# Altium integrated library Atmel Microcontroller 32-Bit ARM.IntLib: 116 symbols (part 5 of 10)
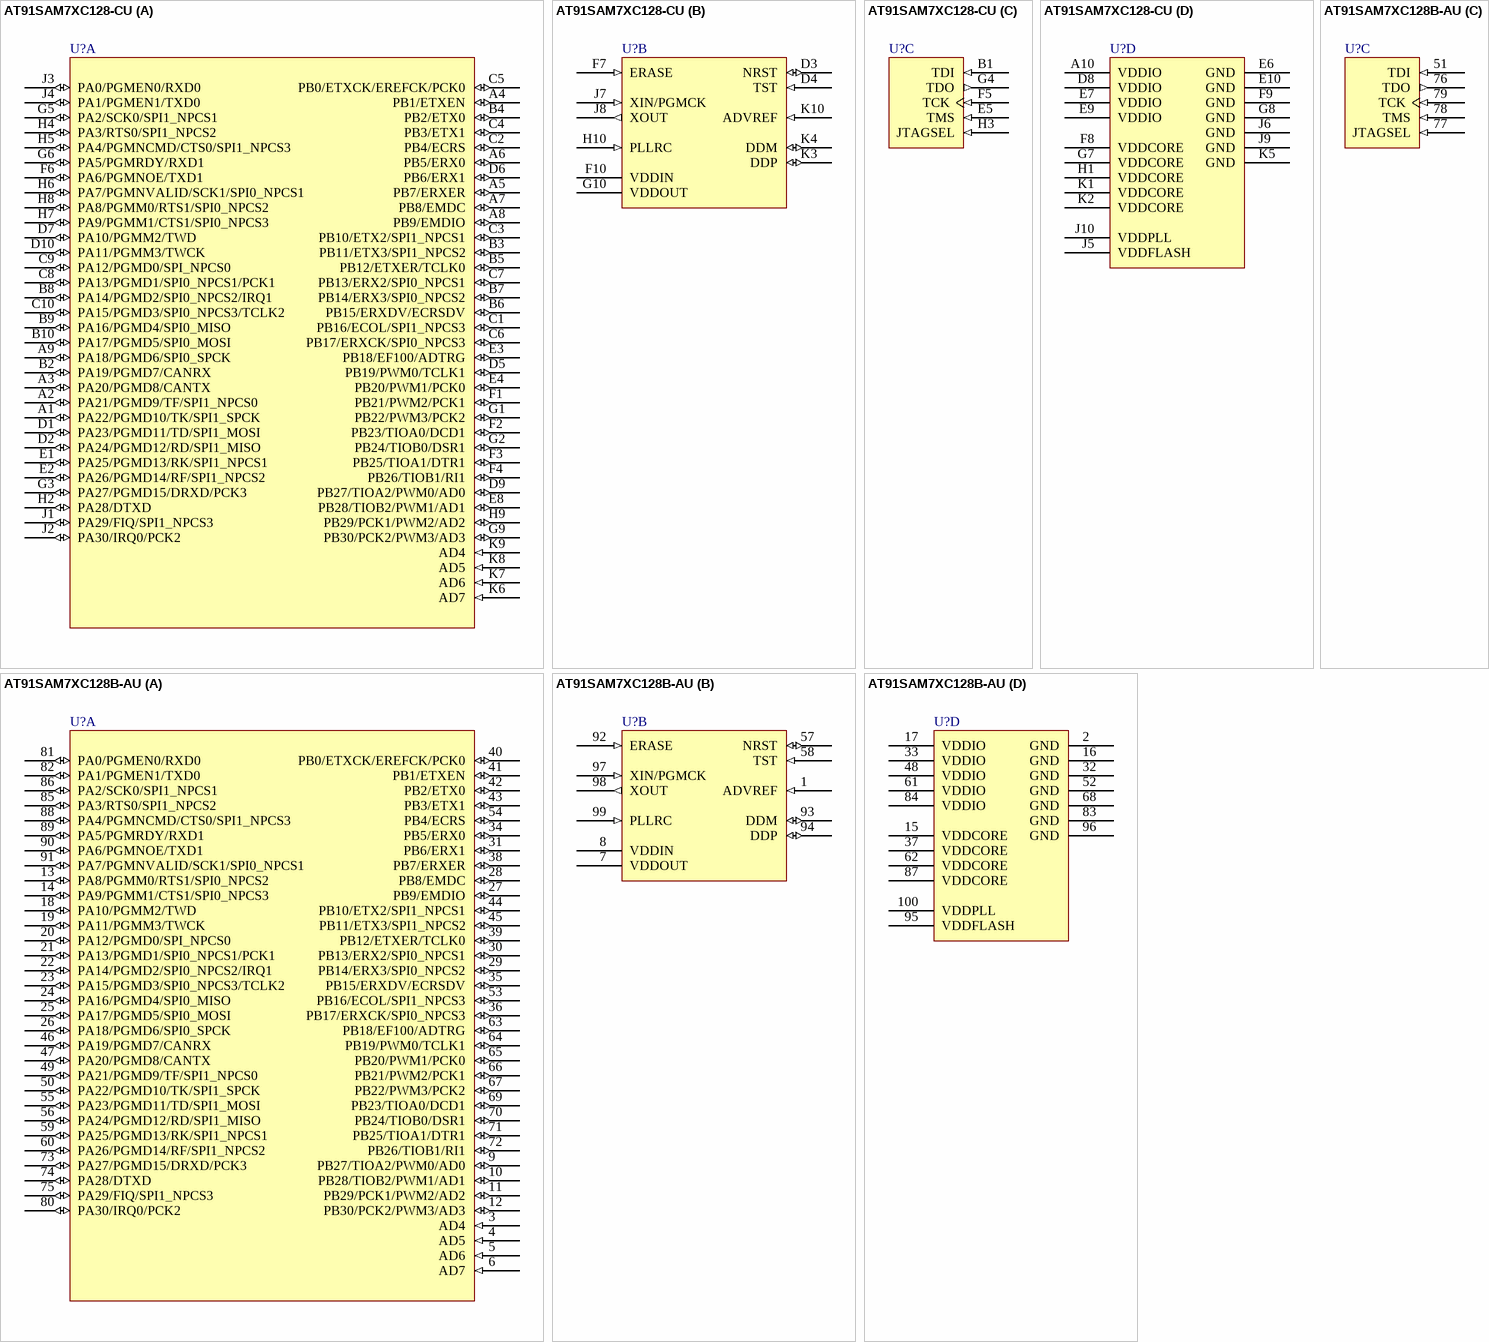
[diagram p56: symbols AT91SAM7XC128-CU to AT91SAM7XC128B-AU]

## AT91SAM7XC128-CU
designator U?
AT91 ARM Thumb-based 32-bit Microcontroller, 128KB Flash, 32KB SRAM, E-MAC, CAN, 100-Pin TFBGA, Industrial Grade (-40°C to 85°C), Pb-Free; Published: 20-Sep-2010; DatasheetVersion: revDS, Feb-2009; PackageVersion: 2004; PackageReference: TFBGA100; Publisher: Altium Limited; PackageDescription: 100-Ball Thin Fine Ball Grid Array, 9 x 9 x1.1 mm Body, 0.80 mm Pitch; Supplier 1: Digi-Key; Supplier Part Number 1: AT91SAM7XC128-CU-ND; Supplier 2: Mouser; Supplier Part Number 2: 556-A91SAM7XC128-CU; ComponentLink1Description: Manufacturer Link; ComponentLink1URL: http://www.atmel.com/products/AT91/default.asp?; ComponentLink2Description: AT91SAM7XC Series Summary; ComponentLink2URL: http://www.atmel.com/dyn/resources/prod_documents/6209s.pdf; ComponentLink3Description: ARM7TDMI Reference Manual; ComponentLink3URL: http://www.atmel.com/dyn/resources/prod_documents/DDI0029G_7TDMI_R3_trm.pdf; ComponentLink4Description: Atmel.com Home; ComponentLink4URL: http://www.atmel.com
footprint TFBGA100 (BGA, 100-Leads, Body 9x9mm, Pitch 0.8mm)
part A pins: A1 PA22/PGMD10/TK/SPI1_SPCK (io), A2 PA21/PGMD9/TF/SPI1_NPCS0 (io), A3 PA20/PGMD8/CANTX (io), A4 PB1/ETXEN (io), A5 PB7/ERXER (io), A6 PB5/ERX0 (io), A7 PB8/EMDC (io), A8 PB9/EMDIO (io), A9 PA18/PGMD6/SPI0_SPCK (io), B2 PA19/PGMD7/CANRX (io), B3 PB11/ETX3/SPI1_NPCS2 (io), B4 PB2/ETX0 (io), B5 PB12/ETXER/TCLK0 (io), B6 PB15/ERXDV/ECRSDV (io), B7 PB14/ERX3/SPI0_NPCS2 (io), B8 PA14/PGMD2/SPI0_NPCS2/IRQ1 (io), B9 PA16/PGMD4/SPI0_MISO (io), B10 PA17/PGMD5/SPI0_MOSI (io), C1 PB16/ECOL/SPI1_NPCS3 (io), C2 PB4/ECRS (io), C3 PB10/ETX2/SPI1_NPCS1 (io), C4 PB3/ETX1 (io), C5 PB0/ETXCK/EREFCK/PCK0 (io), C6 PB17/ERXCK/SPI0_NPCS3 (io), C7 PB13/ERX2/SPI0_NPCS1 (io), C8 PA13/PGMD1/SPI0_NPCS1/PCK1 (io), C9 PA12/PGMD0/SPI_NPCS0 (io), C10 PA15/PGMD3/SPI0_NPCS3/TCLK2 (io), D1 PA23/PGMD11/TD/SPI1_MOSI (io), D2 PA24/PGMD12/RD/SPI1_MISO (io), D5 PB19/PWM0/TCLK1 (io), D6 PB6/ERX1 (io), D7 PA10/PGMM2/TWD (io), D9 PB27/TIOA2/PWM0/AD0 (io), D10 PA11/PGMM3/TWCK (io), E1 PA25/PGMD13/RK/SPI1_NPCS1 (io), E2 PA26/PGMD14/RF/SPI1_NPCS2 (io), E3 PB18/EF100/ADTRG (io), E4 PB20/PWM1/PCK0 (io), E8 PB28/TIOB2/PWM1/AD1 (io), F1 PB21/PWM2/PCK1 (io), F2 PB23/TIOA0/DCD1 (io), F3 PB25/TIOA1/DTR1 (io), F4 PB26/TIOB1/RI1 (io), F6 PA6/PGMNOE/TXD1 (io), G1 PB22/PWM3/PCK2 (io), G2 PB24/TIOB0/DSR1 (io), G3 PA27/PGMD15/DRXD/PCK3 (io), G5 PA2/SCK0/SPI1_NPCS1 (io), G6 PA5/PGMRDY/RXD1 (io), G9 PB30/PCK2/PWM3/AD3 (io), H2 PA28/DTXD (io), H4 PA3/RTS0/SPI1_NPCS2 (io), H5 PA4/PGMNCMD/CTS0/SPI1_NPCS3 (io), H6 PA7/PGMNVALID/SCK1/SPI0_NPCS1 (io), H7 PA9/PGMM1/CTS1/SPI0_NPCS3 (io), H8 PA8/PGMM0/RTS1/SPI0_NPCS2 (io), H9 PB29/PCK1/PWM2/AD2 (io), J1 PA29/FIQ/SPI1_NPCS3 (io), J2 PA30/IRQ0/PCK2 (io), J3 PA0/PGMEN0/RXD0 (io), J4 PA1/PGMEN1/TXD0 (io), K6 AD7 (in), K7 AD6 (in), K8 AD5 (in), K9 AD4 (in)
part B pins: D3 NRST (io), D4 TST (in), F7 ERASE (in), F10 VDDIN (power), G10 VDDOUT (power), H10 PLLRC (in), J7 XIN/PGMCK (in), J8 XOUT (out), K3 DDP (io), K4 DDM (io), K10 ADVREF (in)
part C pins: B1 TDI (in), E5 TMS (in), F5 TCK (in), G4 TDO (out), H3 JTAGSEL (in)
part D pins: A10 VDDIO (power), D8 VDDIO (power), E6 GND (power), E7 VDDIO (power), E9 VDDIO (power), E10 GND (power), F8 VDDCORE (power), F9 GND (power), G7 VDDCORE (power), G8 GND (power), H1 VDDCORE (power), J5 VDDFLASH (power), J6 GND (power), J9 GND (power), J10 VDDPLL (power), K1 VDDCORE (power), K2 VDDCORE (power), K5 GND (power)

## AT91SAM7XC128B-AU
designator U?
AT91 ARM Thumb-based 32-bit Microcontroller, 128KB Flash, 32KB SRAM, E-MAC, CAN, 100-Pin LQFP, Industrial Grade (-40°C to 85°C), Pb-Free; Published: 16-Oct-2006; DatasheetVersion: revDS, Feb-2009; PackageVersion: Apr-2006; PackageReference: LQFP100; Publisher: Altium Limited; PackageDescription: 100-Pin Thin Quad Flat Pack 0.5 mm Pitch; Supplier 1: Digi-Key; Supplier Part Number 1: AT91SAM7XC128B-AU-ND; Supplier 2: Mouser; Supplier Part Number 2: 556-AT91SAM7XC128BAU; Code_JEDEC: MS-026-BED; ComponentLink1Description: Manufacturer Link; ComponentLink1URL: http://www.atmel.com/products/AT91/default.asp?; ComponentLink2Description: AT91SAM7XC Series Summary; ComponentLink2URL: http://www.atmel.com/dyn/resources/prod_documents/6209s.pdf; ComponentLink3Description: ARM7TDMI Reference Manual; ComponentLink3URL: http://www.atmel.com/dyn/resources/prod_documents/DDI0029G_7TDMI_R3_trm.pdf; ComponentLink4Description: Atmel.com Home; ComponentLink4URL: http://www.atmel.com
footprint LQFP100_N (Thin QFP, 100-Leads, Body 14x14mm, Pitch 0.5mm, IPC Medium Density)
footprint LQFP100_L (Thin QFP, 100-Leads, Body 14x14mm, Pitch 0.5mm, IPC High Density)
footprint LQFP100_M (Thin QFP, 100-Leads, Body 14x14mm, Pitch 0.5mm, IPC Low Density)
part A pins: 3 AD4 (in), 4 AD5 (in), 5 AD6 (in), 6 AD7 (in), 9 PB27/TIOA2/PWM0/AD0 (io), 10 PB28/TIOB2/PWM1/AD1 (io), 11 PB29/PCK1/PWM2/AD2 (io), 12 PB30/PCK2/PWM3/AD3 (io), 13 PA8/PGMM0/RTS1/SPI0_NPCS2 (io), 14 PA9/PGMM1/CTS1/SPI0_NPCS3 (io), 18 PA10/PGMM2/TWD (io), 19 PA11/PGMM3/TWCK (io), 20 PA12/PGMD0/SPI_NPCS0 (io), 21 PA13/PGMD1/SPI0_NPCS1/PCK1 (io), 22 PA14/PGMD2/SPI0_NPCS2/IRQ1 (io), 23 PA15/PGMD3/SPI0_NPCS3/TCLK2 (io), 24 PA16/PGMD4/SPI0_MISO (io), 25 PA17/PGMD5/SPI0_MOSI (io), 26 PA18/PGMD6/SPI0_SPCK (io), 27 PB9/EMDIO (io), 28 PB8/EMDC (io), 29 PB14/ERX3/SPI0_NPCS2 (io), 30 PB13/ERX2/SPI0_NPCS1 (io), 31 PB6/ERX1 (io), 34 PB5/ERX0 (io), 35 PB15/ERXDV/ECRSDV (io), 36 PB17/ERXCK/SPI0_NPCS3 (io), 38 PB7/ERXER (io), 39 PB12/ETXER/TCLK0 (io), 40 PB0/ETXCK/EREFCK/PCK0 (io), 41 PB1/ETXEN (io), 42 PB2/ETX0 (io), 43 PB3/ETX1 (io), 44 PB10/ETX2/SPI1_NPCS1 (io), 45 PB11/ETX3/SPI1_NPCS2 (io), 46 PA19/PGMD7/CANRX (io), 47 PA20/PGMD8/CANTX (io), 49 PA21/PGMD9/TF/SPI1_NPCS0 (io), 50 PA22/PGMD10/TK/SPI1_SPCK (io), 53 PB16/ECOL/SPI1_NPCS3 (io), 54 PB4/ECRS (io), 55 PA23/PGMD11/TD/SPI1_MOSI (io), 56 PA24/PGMD12/RD/SPI1_MISO (io), 59 PA25/PGMD13/RK/SPI1_NPCS1 (io), 60 PA26/PGMD14/RF/SPI1_NPCS2 (io), 63 PB18/EF100/ADTRG (io), 64 PB19/PWM0/TCLK1 (io), 65 PB20/PWM1/PCK0 (io), 66 PB21/PWM2/PCK1 (io), 67 PB22/PWM3/PCK2 (io), 69 PB23/TIOA0/DCD1 (io), 70 PB24/TIOB0/DSR1 (io), 71 PB25/TIOA1/DTR1 (io), 72 PB26/TIOB1/RI1 (io), 73 PA27/PGMD15/DRXD/PCK3 (io), 74 PA28/DTXD (io), 75 PA29/FIQ/SPI1_NPCS3 (io), 80 PA30/IRQ0/PCK2 (io), 81 PA0/PGMEN0/RXD0 (io), 82 PA1/PGMEN1/TXD0 (io), 85 PA3/RTS0/SPI1_NPCS2 (io), 86 PA2/SCK0/SPI1_NPCS1 (io), 88 PA4/PGMNCMD/CTS0/SPI1_NPCS3 (io), 89 PA5/PGMRDY/RXD1 (io), 90 PA6/PGMNOE/TXD1 (io), 91 PA7/PGMNVALID/SCK1/SPI0_NPCS1 (io)
part B pins: 1 ADVREF (in), 7 VDDOUT (power), 8 VDDIN (power), 57 NRST (io), 58 TST (in), 92 ERASE (in), 93 DDM (io), 94 DDP (io), 97 XIN/PGMCK (in), 98 XOUT (out), 99 PLLRC (in)
part C pins: 51 TDI (in), 76 TDO (out), 77 JTAGSEL (in), 78 TMS (in), 79 TCK (in)
part D pins: 2 GND (power), 15 VDDCORE (power), 16 GND (power), 17 VDDIO (power), 32 GND (power), 33 VDDIO (power), 37 VDDCORE (power), 48 VDDIO (power), 52 GND (power), 61 VDDIO (power), 62 VDDCORE (power), 68 GND (power), 83 GND (power), 84 VDDIO (power), 87 VDDCORE (power), 95 VDDFLASH (power), 96 GND (power), 100 VDDPLL (power)

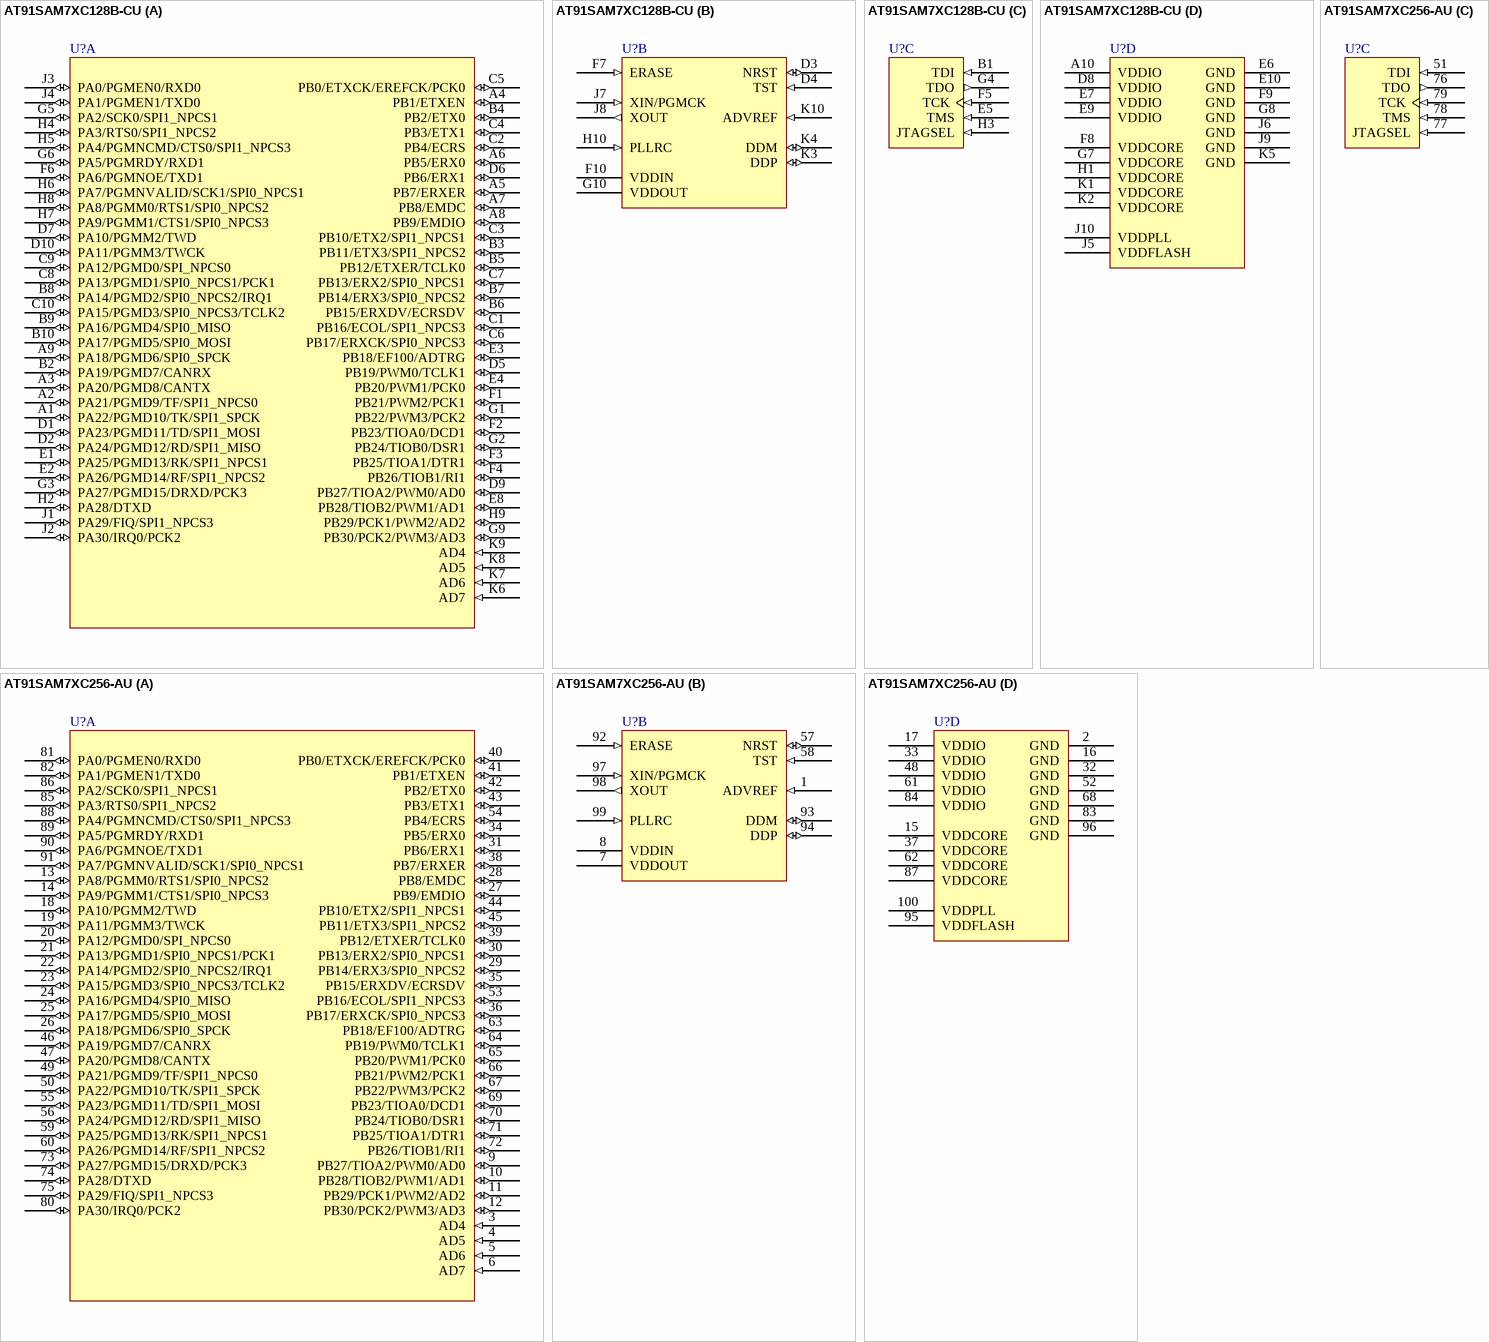
[diagram p24: symbols AT91SAM7XC128B-CU to AT91SAM7XC256-AU]

## AT91SAM7XC128B-CU
designator U?
AT91 ARM Thumb-based 32-bit Microcontroller, 128KB Flash, 32KB SRAM, E-MAC, CAN, 100-Pin TFBGA, Industrial Grade (-40°C to 85°C), Pb-Free; Published: 20-Sep-2010; DatasheetVersion: revDS, Feb-2009; PackageVersion: 2004; PackageReference: TFBGA100; Publisher: Altium Limited; PackageDescription: 100-Ball Thin Fine Ball Grid Array, 9 x 9 x1.1 mm Body, 0.80 mm Pitch; Supplier 1: Digi-Key; Supplier Part Number 1: AT91SAM7XC128B-CU-ND; Supplier 2: Mouser; Supplier Part Number 2: 556-AT91SAM7XC128BCU; ComponentLink1Description: Manufacturer Link; ComponentLink1URL: http://www.atmel.com/products/AT91/default.asp?; ComponentLink2Description: AT91SAM7XC Series Summary; ComponentLink2URL: http://www.atmel.com/dyn/resources/prod_documents/6209s.pdf; ComponentLink3Description: ARM7TDMI Reference Manual; ComponentLink3URL: http://www.atmel.com/dyn/resources/prod_documents/DDI0029G_7TDMI_R3_trm.pdf; ComponentLink4Description: Atmel.com Home; ComponentLink4URL: http://www.atmel.com
footprint TFBGA100 (BGA, 100-Leads, Body 9x9mm, Pitch 0.8mm)
part A pins: A1 PA22/PGMD10/TK/SPI1_SPCK (io), A2 PA21/PGMD9/TF/SPI1_NPCS0 (io), A3 PA20/PGMD8/CANTX (io), A4 PB1/ETXEN (io), A5 PB7/ERXER (io), A6 PB5/ERX0 (io), A7 PB8/EMDC (io), A8 PB9/EMDIO (io), A9 PA18/PGMD6/SPI0_SPCK (io), B2 PA19/PGMD7/CANRX (io), B3 PB11/ETX3/SPI1_NPCS2 (io), B4 PB2/ETX0 (io), B5 PB12/ETXER/TCLK0 (io), B6 PB15/ERXDV/ECRSDV (io), B7 PB14/ERX3/SPI0_NPCS2 (io), B8 PA14/PGMD2/SPI0_NPCS2/IRQ1 (io), B9 PA16/PGMD4/SPI0_MISO (io), B10 PA17/PGMD5/SPI0_MOSI (io), C1 PB16/ECOL/SPI1_NPCS3 (io), C2 PB4/ECRS (io), C3 PB10/ETX2/SPI1_NPCS1 (io), C4 PB3/ETX1 (io), C5 PB0/ETXCK/EREFCK/PCK0 (io), C6 PB17/ERXCK/SPI0_NPCS3 (io), C7 PB13/ERX2/SPI0_NPCS1 (io), C8 PA13/PGMD1/SPI0_NPCS1/PCK1 (io), C9 PA12/PGMD0/SPI_NPCS0 (io), C10 PA15/PGMD3/SPI0_NPCS3/TCLK2 (io), D1 PA23/PGMD11/TD/SPI1_MOSI (io), D2 PA24/PGMD12/RD/SPI1_MISO (io), D5 PB19/PWM0/TCLK1 (io), D6 PB6/ERX1 (io), D7 PA10/PGMM2/TWD (io), D9 PB27/TIOA2/PWM0/AD0 (io), D10 PA11/PGMM3/TWCK (io), E1 PA25/PGMD13/RK/SPI1_NPCS1 (io), E2 PA26/PGMD14/RF/SPI1_NPCS2 (io), E3 PB18/EF100/ADTRG (io), E4 PB20/PWM1/PCK0 (io), E8 PB28/TIOB2/PWM1/AD1 (io), F1 PB21/PWM2/PCK1 (io), F2 PB23/TIOA0/DCD1 (io), F3 PB25/TIOA1/DTR1 (io), F4 PB26/TIOB1/RI1 (io), F6 PA6/PGMNOE/TXD1 (io), G1 PB22/PWM3/PCK2 (io), G2 PB24/TIOB0/DSR1 (io), G3 PA27/PGMD15/DRXD/PCK3 (io), G5 PA2/SCK0/SPI1_NPCS1 (io), G6 PA5/PGMRDY/RXD1 (io), G9 PB30/PCK2/PWM3/AD3 (io), H2 PA28/DTXD (io), H4 PA3/RTS0/SPI1_NPCS2 (io), H5 PA4/PGMNCMD/CTS0/SPI1_NPCS3 (io), H6 PA7/PGMNVALID/SCK1/SPI0_NPCS1 (io), H7 PA9/PGMM1/CTS1/SPI0_NPCS3 (io), H8 PA8/PGMM0/RTS1/SPI0_NPCS2 (io), H9 PB29/PCK1/PWM2/AD2 (io), J1 PA29/FIQ/SPI1_NPCS3 (io), J2 PA30/IRQ0/PCK2 (io), J3 PA0/PGMEN0/RXD0 (io), J4 PA1/PGMEN1/TXD0 (io), K6 AD7 (in), K7 AD6 (in), K8 AD5 (in), K9 AD4 (in)
part B pins: D3 NRST (io), D4 TST (in), F7 ERASE (in), F10 VDDIN (power), G10 VDDOUT (power), H10 PLLRC (in), J7 XIN/PGMCK (in), J8 XOUT (out), K3 DDP (io), K4 DDM (io), K10 ADVREF (in)
part C pins: B1 TDI (in), E5 TMS (in), F5 TCK (in), G4 TDO (out), H3 JTAGSEL (in)
part D pins: A10 VDDIO (power), D8 VDDIO (power), E6 GND (power), E7 VDDIO (power), E9 VDDIO (power), E10 GND (power), F8 VDDCORE (power), F9 GND (power), G7 VDDCORE (power), G8 GND (power), H1 VDDCORE (power), J5 VDDFLASH (power), J6 GND (power), J9 GND (power), J10 VDDPLL (power), K1 VDDCORE (power), K2 VDDCORE (power), K5 GND (power)

## AT91SAM7XC256-AU
designator U?
AT91 ARM Thumb-based 32-bit Microcontroller, 256KB Flash, 64KB SRAM, E-MAC, CAN, 100-Pin LQFP, Industrial Grade (-40°C to 85°C), Pb-Free; Published: 16-Oct-2006; DatasheetVersion: revDS, Feb-2009; PackageVersion: Apr-2006; PackageReference: LQFP100; Publisher: Altium Limited; PackageDescription: 100-Pin Thin Quad Flat Pack 0.5 mm Pitch; Supplier 1: Digi-Key; Supplier Part Number 1: AT91SAM7XC256-AU-ND; Supplier 2: Mouser; Supplier Part Number 2: 556-A91SAM7XC256AU; Code_JEDEC: MS-026-BED; ComponentLink1Description: Manufacturer Link; ComponentLink1URL: http://www.atmel.com/products/AT91/default.asp?; ComponentLink2Description: AT91SAM7XC Series Summary; ComponentLink2URL: http://www.atmel.com/dyn/resources/prod_documents/6209s.pdf; ComponentLink3Description: ARM7TDMI Reference Manual; ComponentLink3URL: http://www.atmel.com/dyn/resources/prod_documents/DDI0029G_7TDMI_R3_trm.pdf; ComponentLink4Description: Atmel.com Home; ComponentLink4URL: http://www.atmel.com
footprint LQFP100_N (Thin QFP, 100-Leads, Body 14x14mm, Pitch 0.5mm, IPC Medium Density)
footprint LQFP100_L (Thin QFP, 100-Leads, Body 14x14mm, Pitch 0.5mm, IPC High Density)
footprint LQFP100_M (Thin QFP, 100-Leads, Body 14x14mm, Pitch 0.5mm, IPC Low Density)
part A pins: 3 AD4 (in), 4 AD5 (in), 5 AD6 (in), 6 AD7 (in), 9 PB27/TIOA2/PWM0/AD0 (io), 10 PB28/TIOB2/PWM1/AD1 (io), 11 PB29/PCK1/PWM2/AD2 (io), 12 PB30/PCK2/PWM3/AD3 (io), 13 PA8/PGMM0/RTS1/SPI0_NPCS2 (io), 14 PA9/PGMM1/CTS1/SPI0_NPCS3 (io), 18 PA10/PGMM2/TWD (io), 19 PA11/PGMM3/TWCK (io), 20 PA12/PGMD0/SPI_NPCS0 (io), 21 PA13/PGMD1/SPI0_NPCS1/PCK1 (io), 22 PA14/PGMD2/SPI0_NPCS2/IRQ1 (io), 23 PA15/PGMD3/SPI0_NPCS3/TCLK2 (io), 24 PA16/PGMD4/SPI0_MISO (io), 25 PA17/PGMD5/SPI0_MOSI (io), 26 PA18/PGMD6/SPI0_SPCK (io), 27 PB9/EMDIO (io), 28 PB8/EMDC (io), 29 PB14/ERX3/SPI0_NPCS2 (io), 30 PB13/ERX2/SPI0_NPCS1 (io), 31 PB6/ERX1 (io), 34 PB5/ERX0 (io), 35 PB15/ERXDV/ECRSDV (io), 36 PB17/ERXCK/SPI0_NPCS3 (io), 38 PB7/ERXER (io), 39 PB12/ETXER/TCLK0 (io), 40 PB0/ETXCK/EREFCK/PCK0 (io), 41 PB1/ETXEN (io), 42 PB2/ETX0 (io), 43 PB3/ETX1 (io), 44 PB10/ETX2/SPI1_NPCS1 (io), 45 PB11/ETX3/SPI1_NPCS2 (io), 46 PA19/PGMD7/CANRX (io), 47 PA20/PGMD8/CANTX (io), 49 PA21/PGMD9/TF/SPI1_NPCS0 (io), 50 PA22/PGMD10/TK/SPI1_SPCK (io), 53 PB16/ECOL/SPI1_NPCS3 (io), 54 PB4/ECRS (io), 55 PA23/PGMD11/TD/SPI1_MOSI (io), 56 PA24/PGMD12/RD/SPI1_MISO (io), 59 PA25/PGMD13/RK/SPI1_NPCS1 (io), 60 PA26/PGMD14/RF/SPI1_NPCS2 (io), 63 PB18/EF100/ADTRG (io), 64 PB19/PWM0/TCLK1 (io), 65 PB20/PWM1/PCK0 (io), 66 PB21/PWM2/PCK1 (io), 67 PB22/PWM3/PCK2 (io), 69 PB23/TIOA0/DCD1 (io), 70 PB24/TIOB0/DSR1 (io), 71 PB25/TIOA1/DTR1 (io), 72 PB26/TIOB1/RI1 (io), 73 PA27/PGMD15/DRXD/PCK3 (io), 74 PA28/DTXD (io), 75 PA29/FIQ/SPI1_NPCS3 (io), 80 PA30/IRQ0/PCK2 (io), 81 PA0/PGMEN0/RXD0 (io), 82 PA1/PGMEN1/TXD0 (io), 85 PA3/RTS0/SPI1_NPCS2 (io), 86 PA2/SCK0/SPI1_NPCS1 (io), 88 PA4/PGMNCMD/CTS0/SPI1_NPCS3 (io), 89 PA5/PGMRDY/RXD1 (io), 90 PA6/PGMNOE/TXD1 (io), 91 PA7/PGMNVALID/SCK1/SPI0_NPCS1 (io)
part B pins: 1 ADVREF (in), 7 VDDOUT (power), 8 VDDIN (power), 57 NRST (io), 58 TST (in), 92 ERASE (in), 93 DDM (io), 94 DDP (io), 97 XIN/PGMCK (in), 98 XOUT (out), 99 PLLRC (in)
part C pins: 51 TDI (in), 76 TDO (out), 77 JTAGSEL (in), 78 TMS (in), 79 TCK (in)
part D pins: 2 GND (power), 15 VDDCORE (power), 16 GND (power), 17 VDDIO (power), 32 GND (power), 33 VDDIO (power), 37 VDDCORE (power), 48 VDDIO (power), 52 GND (power), 61 VDDIO (power), 62 VDDCORE (power), 68 GND (power), 83 GND (power), 84 VDDIO (power), 87 VDDCORE (power), 95 VDDFLASH (power), 96 GND (power), 100 VDDPLL (power)

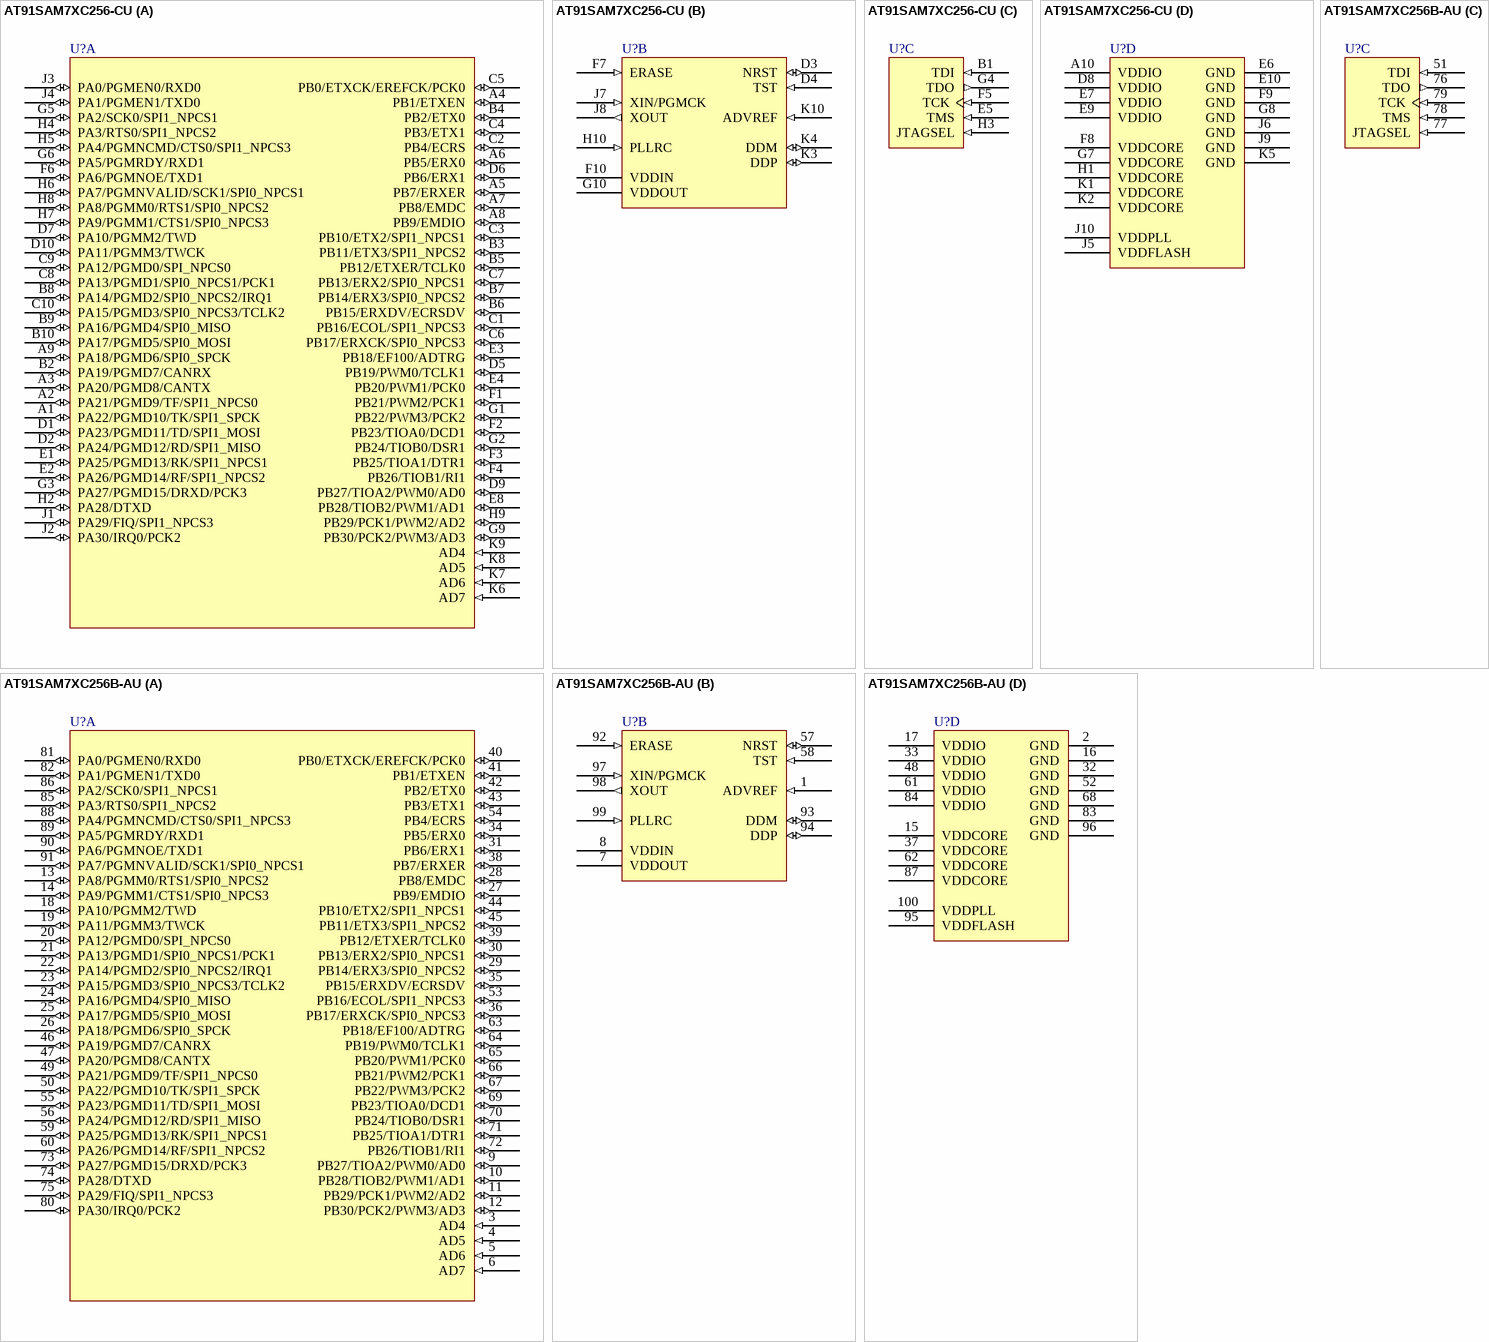
[diagram p25: symbols AT91SAM7XC256-CU to AT91SAM7XC256B-AU]

## AT91SAM7XC256-CU
designator U?
AT91 ARM Thumb-based 32-bit Microcontroller, 256KB Flash, 64KB SRAM, E-MAC, CAN, 100-Pin TFBGA, Industrial Grade (-40°C to 85°C), Pb-Free; Published: 20-Sep-2010; DatasheetVersion: revDS, Feb-2009; PackageVersion: 2004; PackageReference: TFBGA100; Publisher: Altium Limited; PackageDescription: 100-Ball Thin Fine Ball Grid Array, 9 x 9 x1.1 mm Body, 0.80 mm Pitch; Supplier 1: Digi-Key; Supplier Part Number 1: AT91SAM7XC256-CU-ND; Supplier 2: Mouser; Supplier Part Number 2: 556-A91SAM7XC256CU; ComponentLink1Description: Manufacturer Link; ComponentLink1URL: http://www.atmel.com/products/AT91/default.asp?; ComponentLink2Description: AT91SAM7XC Series Summary; ComponentLink2URL: http://www.atmel.com/dyn/resources/prod_documents/6209s.pdf; ComponentLink3Description: ARM7TDMI Reference Manual; ComponentLink3URL: http://www.atmel.com/dyn/resources/prod_documents/DDI0029G_7TDMI_R3_trm.pdf; ComponentLink4Description: Atmel.com Home; ComponentLink4URL: http://www.atmel.com
footprint TFBGA100 (BGA, 100-Leads, Body 9x9mm, Pitch 0.8mm)
part A pins: A1 PA22/PGMD10/TK/SPI1_SPCK (io), A2 PA21/PGMD9/TF/SPI1_NPCS0 (io), A3 PA20/PGMD8/CANTX (io), A4 PB1/ETXEN (io), A5 PB7/ERXER (io), A6 PB5/ERX0 (io), A7 PB8/EMDC (io), A8 PB9/EMDIO (io), A9 PA18/PGMD6/SPI0_SPCK (io), B2 PA19/PGMD7/CANRX (io), B3 PB11/ETX3/SPI1_NPCS2 (io), B4 PB2/ETX0 (io), B5 PB12/ETXER/TCLK0 (io), B6 PB15/ERXDV/ECRSDV (io), B7 PB14/ERX3/SPI0_NPCS2 (io), B8 PA14/PGMD2/SPI0_NPCS2/IRQ1 (io), B9 PA16/PGMD4/SPI0_MISO (io), B10 PA17/PGMD5/SPI0_MOSI (io), C1 PB16/ECOL/SPI1_NPCS3 (io), C2 PB4/ECRS (io), C3 PB10/ETX2/SPI1_NPCS1 (io), C4 PB3/ETX1 (io), C5 PB0/ETXCK/EREFCK/PCK0 (io), C6 PB17/ERXCK/SPI0_NPCS3 (io), C7 PB13/ERX2/SPI0_NPCS1 (io), C8 PA13/PGMD1/SPI0_NPCS1/PCK1 (io), C9 PA12/PGMD0/SPI_NPCS0 (io), C10 PA15/PGMD3/SPI0_NPCS3/TCLK2 (io), D1 PA23/PGMD11/TD/SPI1_MOSI (io), D2 PA24/PGMD12/RD/SPI1_MISO (io), D5 PB19/PWM0/TCLK1 (io), D6 PB6/ERX1 (io), D7 PA10/PGMM2/TWD (io), D9 PB27/TIOA2/PWM0/AD0 (io), D10 PA11/PGMM3/TWCK (io), E1 PA25/PGMD13/RK/SPI1_NPCS1 (io), E2 PA26/PGMD14/RF/SPI1_NPCS2 (io), E3 PB18/EF100/ADTRG (io), E4 PB20/PWM1/PCK0 (io), E8 PB28/TIOB2/PWM1/AD1 (io), F1 PB21/PWM2/PCK1 (io), F2 PB23/TIOA0/DCD1 (io), F3 PB25/TIOA1/DTR1 (io), F4 PB26/TIOB1/RI1 (io), F6 PA6/PGMNOE/TXD1 (io), G1 PB22/PWM3/PCK2 (io), G2 PB24/TIOB0/DSR1 (io), G3 PA27/PGMD15/DRXD/PCK3 (io), G5 PA2/SCK0/SPI1_NPCS1 (io), G6 PA5/PGMRDY/RXD1 (io), G9 PB30/PCK2/PWM3/AD3 (io), H2 PA28/DTXD (io), H4 PA3/RTS0/SPI1_NPCS2 (io), H5 PA4/PGMNCMD/CTS0/SPI1_NPCS3 (io), H6 PA7/PGMNVALID/SCK1/SPI0_NPCS1 (io), H7 PA9/PGMM1/CTS1/SPI0_NPCS3 (io), H8 PA8/PGMM0/RTS1/SPI0_NPCS2 (io), H9 PB29/PCK1/PWM2/AD2 (io), J1 PA29/FIQ/SPI1_NPCS3 (io), J2 PA30/IRQ0/PCK2 (io), J3 PA0/PGMEN0/RXD0 (io), J4 PA1/PGMEN1/TXD0 (io), K6 AD7 (in), K7 AD6 (in), K8 AD5 (in), K9 AD4 (in)
part B pins: D3 NRST (io), D4 TST (in), F7 ERASE (in), F10 VDDIN (power), G10 VDDOUT (power), H10 PLLRC (in), J7 XIN/PGMCK (in), J8 XOUT (out), K3 DDP (io), K4 DDM (io), K10 ADVREF (in)
part C pins: B1 TDI (in), E5 TMS (in), F5 TCK (in), G4 TDO (out), H3 JTAGSEL (in)
part D pins: A10 VDDIO (power), D8 VDDIO (power), E6 GND (power), E7 VDDIO (power), E9 VDDIO (power), E10 GND (power), F8 VDDCORE (power), F9 GND (power), G7 VDDCORE (power), G8 GND (power), H1 VDDCORE (power), J5 VDDFLASH (power), J6 GND (power), J9 GND (power), J10 VDDPLL (power), K1 VDDCORE (power), K2 VDDCORE (power), K5 GND (power)

## AT91SAM7XC256B-AU
designator U?
AT91 ARM Thumb-based 32-bit Microcontroller, 256KB Flash, 64KB SRAM, E-MAC, CAN, 100-Pin LQFP, Industrial Grade (-40°C to 85°C), Pb-Free; Published: 16-Oct-2006; DatasheetVersion: revDS, Feb-2009; PackageVersion: Apr-2006; PackageReference: LQFP100; Publisher: Altium Limited; PackageDescription: 100-Pin Thin Quad Flat Pack 0.5 mm Pitch; Supplier 1: Digi-Key; Supplier Part Number 1: AT91SAM7XC256B-AU-ND; Supplier 2: Mouser; Supplier Part Number 2: 556-AT91SAM7XC256BAU; Code_JEDEC: MS-026-BED; ComponentLink1Description: Manufacturer Link; ComponentLink1URL: http://www.atmel.com/products/AT91/default.asp?; ComponentLink2Description: AT91SAM7XC Series Summary; ComponentLink2URL: http://www.atmel.com/dyn/resources/prod_documents/6209s.pdf; ComponentLink3Description: ARM7TDMI Reference Manual; ComponentLink3URL: http://www.atmel.com/dyn/resources/prod_documents/DDI0029G_7TDMI_R3_trm.pdf; ComponentLink4Description: Atmel.com Home; ComponentLink4URL: http://www.atmel.com
footprint LQFP100_N (Thin QFP, 100-Leads, Body 14x14mm, Pitch 0.5mm, IPC Medium Density)
footprint LQFP100_L (Thin QFP, 100-Leads, Body 14x14mm, Pitch 0.5mm, IPC High Density)
footprint LQFP100_M (Thin QFP, 100-Leads, Body 14x14mm, Pitch 0.5mm, IPC Low Density)
part A pins: 3 AD4 (in), 4 AD5 (in), 5 AD6 (in), 6 AD7 (in), 9 PB27/TIOA2/PWM0/AD0 (io), 10 PB28/TIOB2/PWM1/AD1 (io), 11 PB29/PCK1/PWM2/AD2 (io), 12 PB30/PCK2/PWM3/AD3 (io), 13 PA8/PGMM0/RTS1/SPI0_NPCS2 (io), 14 PA9/PGMM1/CTS1/SPI0_NPCS3 (io), 18 PA10/PGMM2/TWD (io), 19 PA11/PGMM3/TWCK (io), 20 PA12/PGMD0/SPI_NPCS0 (io), 21 PA13/PGMD1/SPI0_NPCS1/PCK1 (io), 22 PA14/PGMD2/SPI0_NPCS2/IRQ1 (io), 23 PA15/PGMD3/SPI0_NPCS3/TCLK2 (io), 24 PA16/PGMD4/SPI0_MISO (io), 25 PA17/PGMD5/SPI0_MOSI (io), 26 PA18/PGMD6/SPI0_SPCK (io), 27 PB9/EMDIO (io), 28 PB8/EMDC (io), 29 PB14/ERX3/SPI0_NPCS2 (io), 30 PB13/ERX2/SPI0_NPCS1 (io), 31 PB6/ERX1 (io), 34 PB5/ERX0 (io), 35 PB15/ERXDV/ECRSDV (io), 36 PB17/ERXCK/SPI0_NPCS3 (io), 38 PB7/ERXER (io), 39 PB12/ETXER/TCLK0 (io), 40 PB0/ETXCK/EREFCK/PCK0 (io), 41 PB1/ETXEN (io), 42 PB2/ETX0 (io), 43 PB3/ETX1 (io), 44 PB10/ETX2/SPI1_NPCS1 (io), 45 PB11/ETX3/SPI1_NPCS2 (io), 46 PA19/PGMD7/CANRX (io), 47 PA20/PGMD8/CANTX (io), 49 PA21/PGMD9/TF/SPI1_NPCS0 (io), 50 PA22/PGMD10/TK/SPI1_SPCK (io), 53 PB16/ECOL/SPI1_NPCS3 (io), 54 PB4/ECRS (io), 55 PA23/PGMD11/TD/SPI1_MOSI (io), 56 PA24/PGMD12/RD/SPI1_MISO (io), 59 PA25/PGMD13/RK/SPI1_NPCS1 (io), 60 PA26/PGMD14/RF/SPI1_NPCS2 (io), 63 PB18/EF100/ADTRG (io), 64 PB19/PWM0/TCLK1 (io), 65 PB20/PWM1/PCK0 (io), 66 PB21/PWM2/PCK1 (io), 67 PB22/PWM3/PCK2 (io), 69 PB23/TIOA0/DCD1 (io), 70 PB24/TIOB0/DSR1 (io), 71 PB25/TIOA1/DTR1 (io), 72 PB26/TIOB1/RI1 (io), 73 PA27/PGMD15/DRXD/PCK3 (io), 74 PA28/DTXD (io), 75 PA29/FIQ/SPI1_NPCS3 (io), 80 PA30/IRQ0/PCK2 (io), 81 PA0/PGMEN0/RXD0 (io), 82 PA1/PGMEN1/TXD0 (io), 85 PA3/RTS0/SPI1_NPCS2 (io), 86 PA2/SCK0/SPI1_NPCS1 (io), 88 PA4/PGMNCMD/CTS0/SPI1_NPCS3 (io), 89 PA5/PGMRDY/RXD1 (io), 90 PA6/PGMNOE/TXD1 (io), 91 PA7/PGMNVALID/SCK1/SPI0_NPCS1 (io)
part B pins: 1 ADVREF (in), 7 VDDOUT (power), 8 VDDIN (power), 57 NRST (io), 58 TST (in), 92 ERASE (in), 93 DDM (io), 94 DDP (io), 97 XIN/PGMCK (in), 98 XOUT (out), 99 PLLRC (in)
part C pins: 51 TDI (in), 76 TDO (out), 77 JTAGSEL (in), 78 TMS (in), 79 TCK (in)
part D pins: 2 GND (power), 15 VDDCORE (power), 16 GND (power), 17 VDDIO (power), 32 GND (power), 33 VDDIO (power), 37 VDDCORE (power), 48 VDDIO (power), 52 GND (power), 61 VDDIO (power), 62 VDDCORE (power), 68 GND (power), 83 GND (power), 84 VDDIO (power), 87 VDDCORE (power), 95 VDDFLASH (power), 96 GND (power), 100 VDDPLL (power)

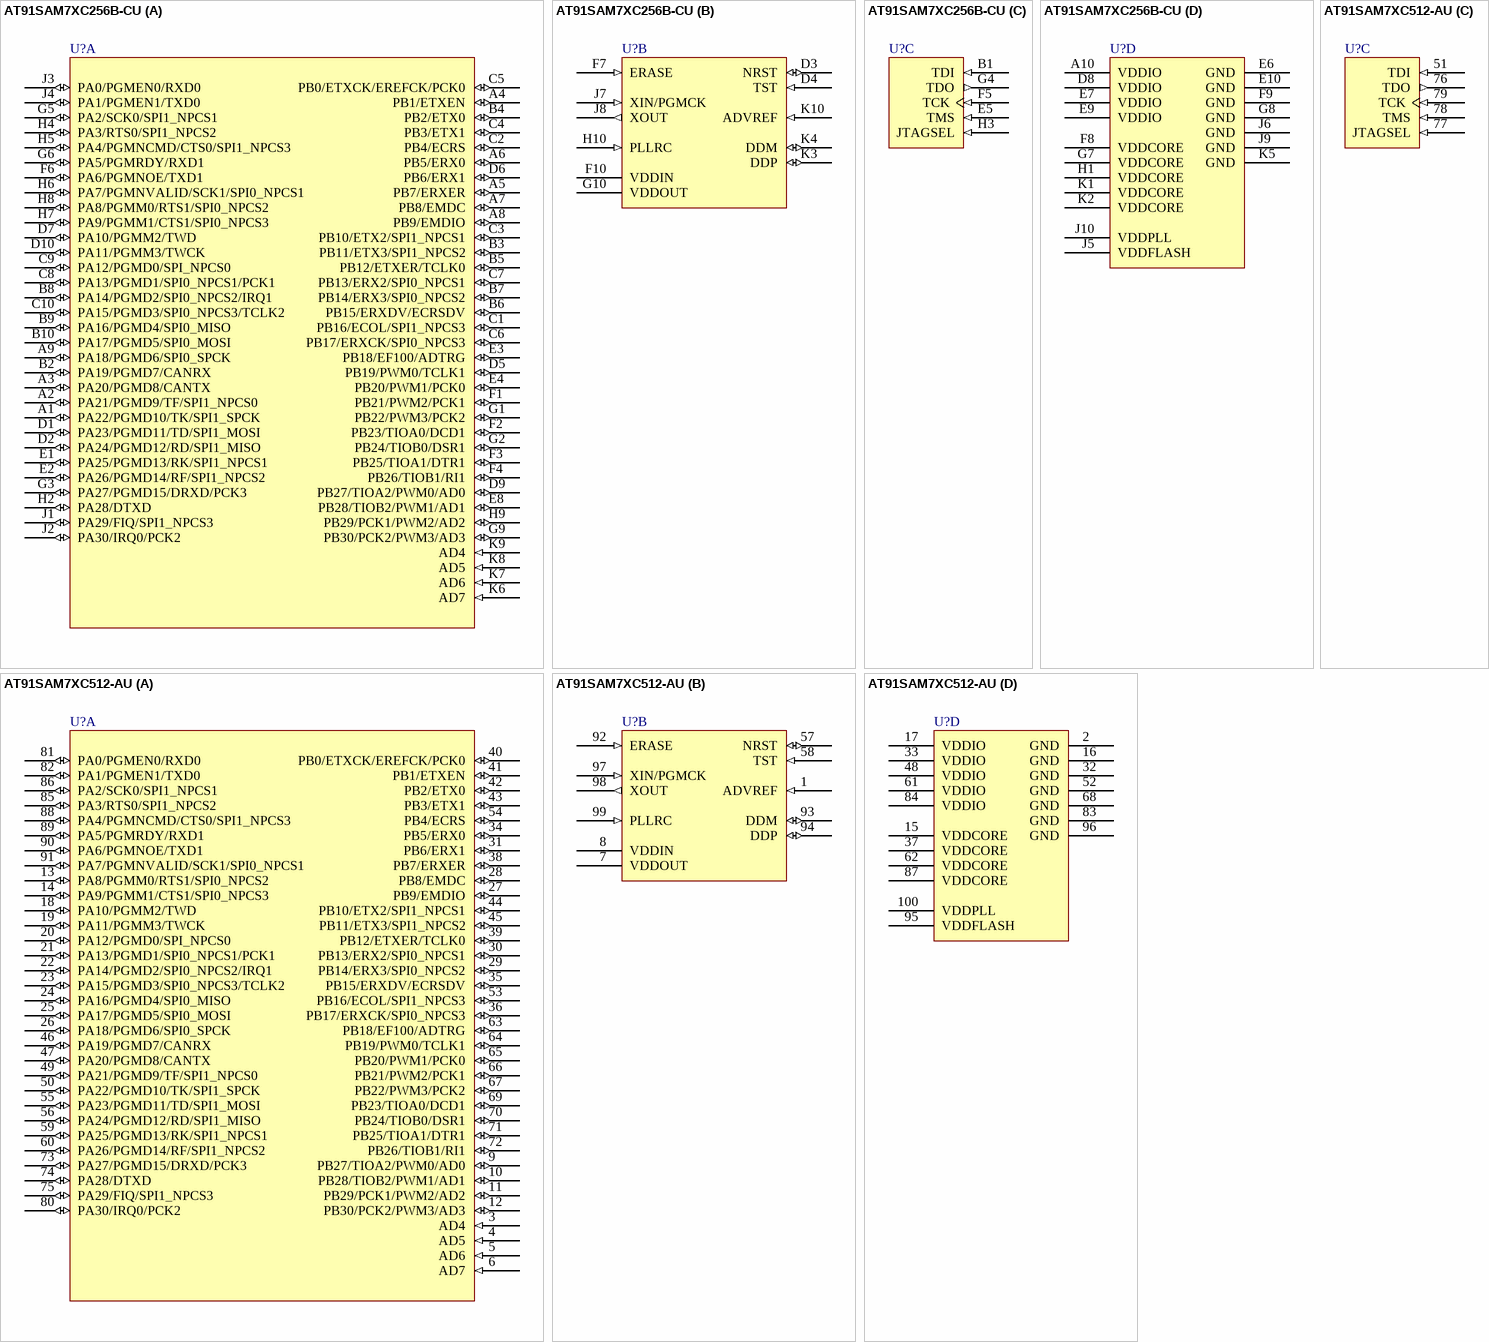
[diagram p26: symbols AT91SAM7XC256B-CU to AT91SAM7XC512-AU]

## AT91SAM7XC256B-CU
designator U?
AT91 ARM Thumb-based 32-bit Microcontroller, 256KB Flash, 64KB SRAM, E-MAC, CAN, 100-Pin TFBGA, Industrial Grade (-40°C to 85°C), Pb-Free; Published: 20-Sep-2010; DatasheetVersion: revDS, Feb-2009; PackageVersion: 2004; PackageReference: TFBGA100; Publisher: Altium Limited; PackageDescription: 100-Ball Thin Fine Ball Grid Array, 9 x 9 x1.1 mm Body, 0.80 mm Pitch; Supplier 1: Digi-Key; Supplier Part Number 1: AT91SAM7XC256B-CU-ND; Supplier 2: Mouser; Supplier Part Number 2: 556-AT91SAM7XC256BCU; ComponentLink1Description: Manufacturer Link; ComponentLink1URL: http://www.atmel.com/products/AT91/default.asp?; ComponentLink2Description: AT91SAM7XC Series Summary; ComponentLink2URL: http://www.atmel.com/dyn/resources/prod_documents/6209s.pdf; ComponentLink3Description: ARM7TDMI Reference Manual; ComponentLink3URL: http://www.atmel.com/dyn/resources/prod_documents/DDI0029G_7TDMI_R3_trm.pdf; ComponentLink4Description: Atmel.com Home; ComponentLink4URL: http://www.atmel.com
footprint TFBGA100 (BGA, 100-Leads, Body 9x9mm, Pitch 0.8mm)
part A pins: A1 PA22/PGMD10/TK/SPI1_SPCK (io), A2 PA21/PGMD9/TF/SPI1_NPCS0 (io), A3 PA20/PGMD8/CANTX (io), A4 PB1/ETXEN (io), A5 PB7/ERXER (io), A6 PB5/ERX0 (io), A7 PB8/EMDC (io), A8 PB9/EMDIO (io), A9 PA18/PGMD6/SPI0_SPCK (io), B2 PA19/PGMD7/CANRX (io), B3 PB11/ETX3/SPI1_NPCS2 (io), B4 PB2/ETX0 (io), B5 PB12/ETXER/TCLK0 (io), B6 PB15/ERXDV/ECRSDV (io), B7 PB14/ERX3/SPI0_NPCS2 (io), B8 PA14/PGMD2/SPI0_NPCS2/IRQ1 (io), B9 PA16/PGMD4/SPI0_MISO (io), B10 PA17/PGMD5/SPI0_MOSI (io), C1 PB16/ECOL/SPI1_NPCS3 (io), C2 PB4/ECRS (io), C3 PB10/ETX2/SPI1_NPCS1 (io), C4 PB3/ETX1 (io), C5 PB0/ETXCK/EREFCK/PCK0 (io), C6 PB17/ERXCK/SPI0_NPCS3 (io), C7 PB13/ERX2/SPI0_NPCS1 (io), C8 PA13/PGMD1/SPI0_NPCS1/PCK1 (io), C9 PA12/PGMD0/SPI_NPCS0 (io), C10 PA15/PGMD3/SPI0_NPCS3/TCLK2 (io), D1 PA23/PGMD11/TD/SPI1_MOSI (io), D2 PA24/PGMD12/RD/SPI1_MISO (io), D5 PB19/PWM0/TCLK1 (io), D6 PB6/ERX1 (io), D7 PA10/PGMM2/TWD (io), D9 PB27/TIOA2/PWM0/AD0 (io), D10 PA11/PGMM3/TWCK (io), E1 PA25/PGMD13/RK/SPI1_NPCS1 (io), E2 PA26/PGMD14/RF/SPI1_NPCS2 (io), E3 PB18/EF100/ADTRG (io), E4 PB20/PWM1/PCK0 (io), E8 PB28/TIOB2/PWM1/AD1 (io), F1 PB21/PWM2/PCK1 (io), F2 PB23/TIOA0/DCD1 (io), F3 PB25/TIOA1/DTR1 (io), F4 PB26/TIOB1/RI1 (io), F6 PA6/PGMNOE/TXD1 (io), G1 PB22/PWM3/PCK2 (io), G2 PB24/TIOB0/DSR1 (io), G3 PA27/PGMD15/DRXD/PCK3 (io), G5 PA2/SCK0/SPI1_NPCS1 (io), G6 PA5/PGMRDY/RXD1 (io), G9 PB30/PCK2/PWM3/AD3 (io), H2 PA28/DTXD (io), H4 PA3/RTS0/SPI1_NPCS2 (io), H5 PA4/PGMNCMD/CTS0/SPI1_NPCS3 (io), H6 PA7/PGMNVALID/SCK1/SPI0_NPCS1 (io), H7 PA9/PGMM1/CTS1/SPI0_NPCS3 (io), H8 PA8/PGMM0/RTS1/SPI0_NPCS2 (io), H9 PB29/PCK1/PWM2/AD2 (io), J1 PA29/FIQ/SPI1_NPCS3 (io), J2 PA30/IRQ0/PCK2 (io), J3 PA0/PGMEN0/RXD0 (io), J4 PA1/PGMEN1/TXD0 (io), K6 AD7 (in), K7 AD6 (in), K8 AD5 (in), K9 AD4 (in)
part B pins: D3 NRST (io), D4 TST (in), F7 ERASE (in), F10 VDDIN (power), G10 VDDOUT (power), H10 PLLRC (in), J7 XIN/PGMCK (in), J8 XOUT (out), K3 DDP (io), K4 DDM (io), K10 ADVREF (in)
part C pins: B1 TDI (in), E5 TMS (in), F5 TCK (in), G4 TDO (out), H3 JTAGSEL (in)
part D pins: A10 VDDIO (power), D8 VDDIO (power), E6 GND (power), E7 VDDIO (power), E9 VDDIO (power), E10 GND (power), F8 VDDCORE (power), F9 GND (power), G7 VDDCORE (power), G8 GND (power), H1 VDDCORE (power), J5 VDDFLASH (power), J6 GND (power), J9 GND (power), J10 VDDPLL (power), K1 VDDCORE (power), K2 VDDCORE (power), K5 GND (power)

## AT91SAM7XC512-AU
designator U?
AT91 ARM Thumb-based 32-bit Microcontroller, 512KB Flash, 128KB SRAM, E-MAC, CAN, 100-Pin LQFP, Industrial Grade (-40°C to 85°C), Pb-Free; Published: 20-Sep-2010; DatasheetVersion: revDS, Feb-2009; PackageVersion: Apr-2006; PackageReference: LQFP100; Publisher: Altium Limited; PackageDescription: 100-Pin Thin Quad Flat Pack 0.5 mm Pitch; Supplier 1: Digi-Key; Supplier Part Number 1: AT91SAM7XC512-AU-ND; Supplier 2: Mouser; Supplier Part Number 2: 556-A91SAM7XC512AU; Code_JEDEC: MS-026-BED; ComponentLink1Description: Manufacturer Link; ComponentLink1URL: http://www.atmel.com/products/AT91/default.asp?; ComponentLink2Description: AT91SAM7XC Series Summary; ComponentLink2URL: http://www.atmel.com/dyn/resources/prod_documents/6209s.pdf; ComponentLink3Description: ARM7TDMI Reference Manual; ComponentLink3URL: http://www.atmel.com/dyn/resources/prod_documents/DDI0029G_7TDMI_R3_trm.pdf; ComponentLink4Description: Atmel.com Home; ComponentLink4URL: http://www.atmel.com
footprint LQFP100_N (Thin QFP, 100-Leads, Body 14x14mm, Pitch 0.5mm, IPC Medium Density)
footprint LQFP100_L (Thin QFP, 100-Leads, Body 14x14mm, Pitch 0.5mm, IPC High Density)
footprint LQFP100_M (Thin QFP, 100-Leads, Body 14x14mm, Pitch 0.5mm, IPC Low Density)
part A pins: 3 AD4 (in), 4 AD5 (in), 5 AD6 (in), 6 AD7 (in), 9 PB27/TIOA2/PWM0/AD0 (io), 10 PB28/TIOB2/PWM1/AD1 (io), 11 PB29/PCK1/PWM2/AD2 (io), 12 PB30/PCK2/PWM3/AD3 (io), 13 PA8/PGMM0/RTS1/SPI0_NPCS2 (io), 14 PA9/PGMM1/CTS1/SPI0_NPCS3 (io), 18 PA10/PGMM2/TWD (io), 19 PA11/PGMM3/TWCK (io), 20 PA12/PGMD0/SPI_NPCS0 (io), 21 PA13/PGMD1/SPI0_NPCS1/PCK1 (io), 22 PA14/PGMD2/SPI0_NPCS2/IRQ1 (io), 23 PA15/PGMD3/SPI0_NPCS3/TCLK2 (io), 24 PA16/PGMD4/SPI0_MISO (io), 25 PA17/PGMD5/SPI0_MOSI (io), 26 PA18/PGMD6/SPI0_SPCK (io), 27 PB9/EMDIO (io), 28 PB8/EMDC (io), 29 PB14/ERX3/SPI0_NPCS2 (io), 30 PB13/ERX2/SPI0_NPCS1 (io), 31 PB6/ERX1 (io), 34 PB5/ERX0 (io), 35 PB15/ERXDV/ECRSDV (io), 36 PB17/ERXCK/SPI0_NPCS3 (io), 38 PB7/ERXER (io), 39 PB12/ETXER/TCLK0 (io), 40 PB0/ETXCK/EREFCK/PCK0 (io), 41 PB1/ETXEN (io), 42 PB2/ETX0 (io), 43 PB3/ETX1 (io), 44 PB10/ETX2/SPI1_NPCS1 (io), 45 PB11/ETX3/SPI1_NPCS2 (io), 46 PA19/PGMD7/CANRX (io), 47 PA20/PGMD8/CANTX (io), 49 PA21/PGMD9/TF/SPI1_NPCS0 (io), 50 PA22/PGMD10/TK/SPI1_SPCK (io), 53 PB16/ECOL/SPI1_NPCS3 (io), 54 PB4/ECRS (io), 55 PA23/PGMD11/TD/SPI1_MOSI (io), 56 PA24/PGMD12/RD/SPI1_MISO (io), 59 PA25/PGMD13/RK/SPI1_NPCS1 (io), 60 PA26/PGMD14/RF/SPI1_NPCS2 (io), 63 PB18/EF100/ADTRG (io), 64 PB19/PWM0/TCLK1 (io), 65 PB20/PWM1/PCK0 (io), 66 PB21/PWM2/PCK1 (io), 67 PB22/PWM3/PCK2 (io), 69 PB23/TIOA0/DCD1 (io), 70 PB24/TIOB0/DSR1 (io), 71 PB25/TIOA1/DTR1 (io), 72 PB26/TIOB1/RI1 (io), 73 PA27/PGMD15/DRXD/PCK3 (io), 74 PA28/DTXD (io), 75 PA29/FIQ/SPI1_NPCS3 (io), 80 PA30/IRQ0/PCK2 (io), 81 PA0/PGMEN0/RXD0 (io), 82 PA1/PGMEN1/TXD0 (io), 85 PA3/RTS0/SPI1_NPCS2 (io), 86 PA2/SCK0/SPI1_NPCS1 (io), 88 PA4/PGMNCMD/CTS0/SPI1_NPCS3 (io), 89 PA5/PGMRDY/RXD1 (io), 90 PA6/PGMNOE/TXD1 (io), 91 PA7/PGMNVALID/SCK1/SPI0_NPCS1 (io)
part B pins: 1 ADVREF (in), 7 VDDOUT (power), 8 VDDIN (power), 57 NRST (io), 58 TST (in), 92 ERASE (in), 93 DDM (io), 94 DDP (io), 97 XIN/PGMCK (in), 98 XOUT (out), 99 PLLRC (in)
part C pins: 51 TDI (in), 76 TDO (out), 77 JTAGSEL (in), 78 TMS (in), 79 TCK (in)
part D pins: 2 GND (power), 15 VDDCORE (power), 16 GND (power), 17 VDDIO (power), 32 GND (power), 33 VDDIO (power), 37 VDDCORE (power), 48 VDDIO (power), 52 GND (power), 61 VDDIO (power), 62 VDDCORE (power), 68 GND (power), 83 GND (power), 84 VDDIO (power), 87 VDDCORE (power), 95 VDDFLASH (power), 96 GND (power), 100 VDDPLL (power)

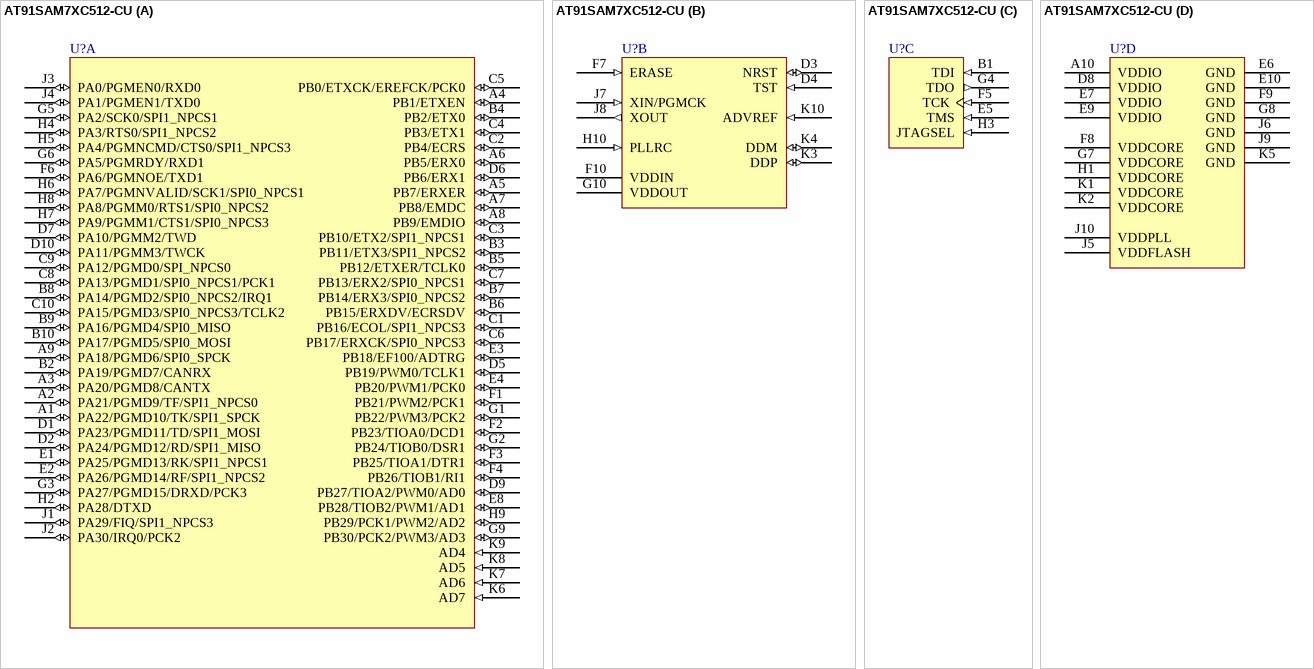
[diagram p27: symbol AT91SAM7XC512-CU]

## AT91SAM7XC512-CU
designator U?
AT91 ARM Thumb-based 32-bit Microcontroller, 512KB Flash, 128KB SRAM, E-MAC, CAN, 100-Pin TFBGA, Industrial Grade (-40°C to 85°C), Pb-Free; Published: 20-Sep-2010; DatasheetVersion: revDS, Feb-2009; PackageVersion: 2004; PackageReference: TFBGA100; Publisher: Altium Limited; PackageDescription: 100-Ball Thin Fine Ball Grid Array, 9 x 9 x1.1 mm Body, 0.80 mm Pitch; Supplier 1: Digi-Key; Supplier Part Number 1: AT91SAM7XC512-CU-ND; Supplier 2: Mouser; Supplier Part Number 2: 556-A91SAM7XC512-CU; ComponentLink1Description: Manufacturer Link; ComponentLink1URL: http://www.atmel.com/products/AT91/default.asp?; ComponentLink2Description: AT91SAM7XC Series Summary; ComponentLink2URL: http://www.atmel.com/dyn/resources/prod_documents/6209s.pdf; ComponentLink3Description: ARM7TDMI Reference Manual; ComponentLink3URL: http://www.atmel.com/dyn/resources/prod_documents/DDI0029G_7TDMI_R3_trm.pdf; ComponentLink4Description: Atmel.com Home; ComponentLink4URL: http://www.atmel.com
footprint TFBGA100 (BGA, 100-Leads, Body 9x9mm, Pitch 0.8mm)
part A pins: A1 PA22/PGMD10/TK/SPI1_SPCK (io), A2 PA21/PGMD9/TF/SPI1_NPCS0 (io), A3 PA20/PGMD8/CANTX (io), A4 PB1/ETXEN (io), A5 PB7/ERXER (io), A6 PB5/ERX0 (io), A7 PB8/EMDC (io), A8 PB9/EMDIO (io), A9 PA18/PGMD6/SPI0_SPCK (io), B2 PA19/PGMD7/CANRX (io), B3 PB11/ETX3/SPI1_NPCS2 (io), B4 PB2/ETX0 (io), B5 PB12/ETXER/TCLK0 (io), B6 PB15/ERXDV/ECRSDV (io), B7 PB14/ERX3/SPI0_NPCS2 (io), B8 PA14/PGMD2/SPI0_NPCS2/IRQ1 (io), B9 PA16/PGMD4/SPI0_MISO (io), B10 PA17/PGMD5/SPI0_MOSI (io), C1 PB16/ECOL/SPI1_NPCS3 (io), C2 PB4/ECRS (io), C3 PB10/ETX2/SPI1_NPCS1 (io), C4 PB3/ETX1 (io), C5 PB0/ETXCK/EREFCK/PCK0 (io), C6 PB17/ERXCK/SPI0_NPCS3 (io), C7 PB13/ERX2/SPI0_NPCS1 (io), C8 PA13/PGMD1/SPI0_NPCS1/PCK1 (io), C9 PA12/PGMD0/SPI_NPCS0 (io), C10 PA15/PGMD3/SPI0_NPCS3/TCLK2 (io), D1 PA23/PGMD11/TD/SPI1_MOSI (io), D2 PA24/PGMD12/RD/SPI1_MISO (io), D5 PB19/PWM0/TCLK1 (io), D6 PB6/ERX1 (io), D7 PA10/PGMM2/TWD (io), D9 PB27/TIOA2/PWM0/AD0 (io), D10 PA11/PGMM3/TWCK (io), E1 PA25/PGMD13/RK/SPI1_NPCS1 (io), E2 PA26/PGMD14/RF/SPI1_NPCS2 (io), E3 PB18/EF100/ADTRG (io), E4 PB20/PWM1/PCK0 (io), E8 PB28/TIOB2/PWM1/AD1 (io), F1 PB21/PWM2/PCK1 (io), F2 PB23/TIOA0/DCD1 (io), F3 PB25/TIOA1/DTR1 (io), F4 PB26/TIOB1/RI1 (io), F6 PA6/PGMNOE/TXD1 (io), G1 PB22/PWM3/PCK2 (io), G2 PB24/TIOB0/DSR1 (io), G3 PA27/PGMD15/DRXD/PCK3 (io), G5 PA2/SCK0/SPI1_NPCS1 (io), G6 PA5/PGMRDY/RXD1 (io), G9 PB30/PCK2/PWM3/AD3 (io), H2 PA28/DTXD (io), H4 PA3/RTS0/SPI1_NPCS2 (io), H5 PA4/PGMNCMD/CTS0/SPI1_NPCS3 (io), H6 PA7/PGMNVALID/SCK1/SPI0_NPCS1 (io), H7 PA9/PGMM1/CTS1/SPI0_NPCS3 (io), H8 PA8/PGMM0/RTS1/SPI0_NPCS2 (io), H9 PB29/PCK1/PWM2/AD2 (io), J1 PA29/FIQ/SPI1_NPCS3 (io), J2 PA30/IRQ0/PCK2 (io), J3 PA0/PGMEN0/RXD0 (io), J4 PA1/PGMEN1/TXD0 (io), K6 AD7 (in), K7 AD6 (in), K8 AD5 (in), K9 AD4 (in)
part B pins: D3 NRST (io), D4 TST (in), F7 ERASE (in), F10 VDDIN (power), G10 VDDOUT (power), H10 PLLRC (in), J7 XIN/PGMCK (in), J8 XOUT (out), K3 DDP (io), K4 DDM (io), K10 ADVREF (in)
part C pins: B1 TDI (in), E5 TMS (in), F5 TCK (in), G4 TDO (out), H3 JTAGSEL (in)
part D pins: A10 VDDIO (power), D8 VDDIO (power), E6 GND (power), E7 VDDIO (power), E9 VDDIO (power), E10 GND (power), F8 VDDCORE (power), F9 GND (power), G7 VDDCORE (power), G8 GND (power), H1 VDDCORE (power), J5 VDDFLASH (power), J6 GND (power), J9 GND (power), J10 VDDPLL (power), K1 VDDCORE (power), K2 VDDCORE (power), K5 GND (power)

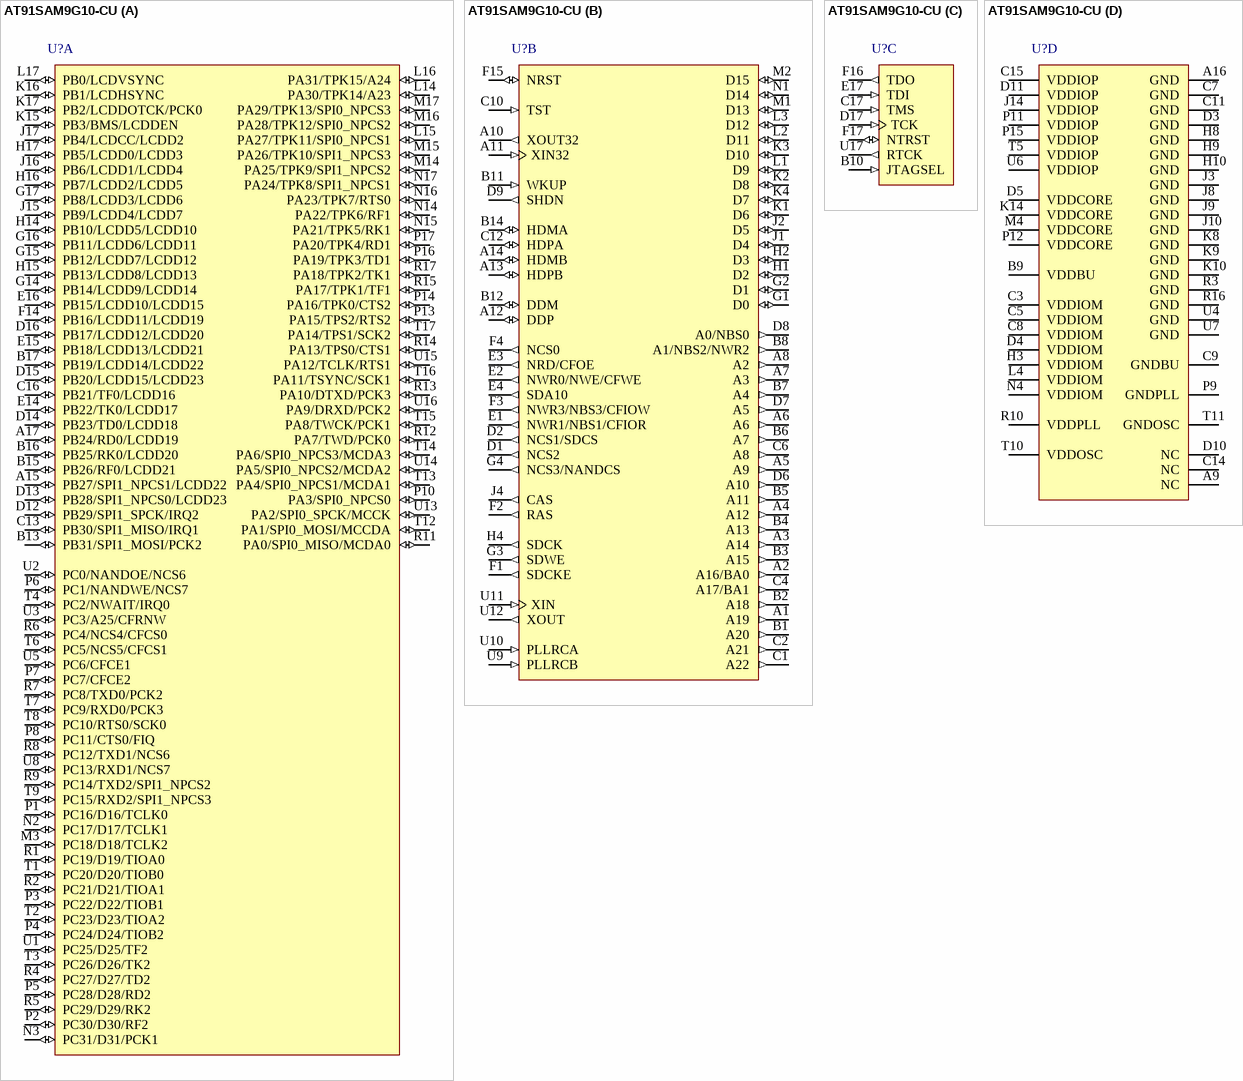
[diagram p28: symbol AT91SAM9G10-CU]

## AT91SAM9G10-CU
designator U?
AT91 ARM Thumb 32-bit Microcontroller, 32KB ROM, 16KB SRAM, EBI, FS USB, 19-ch. PDC, LCD Controller, 217-Pin LFBGA, Industrial Grade (-40°C to 85°C), Pb-Free; Published: 20-Sep-2010; DatasheetVersion: revA, Jun-2009; PackageVersion: 2009; PackageReference: LFBGA217; Publisher: Altium Limited; PackageDescription: 217-Ball Plastic Low Profile Fine-Pitch BGA, 15 x 15 mm Body, 0.8 mm Pitch; Supplier 1: Digi-Key; Supplier Part Number 1: AT91SAM9G10-CU-ND; Supplier 2: Mouser; Supplier Part Number 2: 556-AT91SAM9G10-CU; Code_JEDEC: MO-205; ComponentLink1Description: Manufacturer Link; ComponentLink1URL: http://www.atmel.com/products/AT91/default.asp?; ComponentLink2Description: AT91SAM9G10 Datasheet; ComponentLink2URL: http://www.atmel.com/dyn/resources/prod_documents/doc6462.pdf; ComponentLink3Description: AT91SAM9G10 Summary; ComponentLink3URL: http://www.atmel.com/dyn/resources/prod_documents/6462s.pdf; ComponentLink4Description: ARM926EJ-S Reference Manual; ComponentLink4URL: http://www.atmel.com/dyn/resources/prod_documents/ARM_926EJS_TRM.pdf; ComponentLink5Description: Atmel.com Home; ComponentLink5URL: http://www.atmel.com
footprint LFBGA217 (BGA, 208-Leads, Body 15x15mm, Pitch 0.8mm)
part A pins: A15 PB27/SPI1_NPCS1/LCDD22 (io), A17 PB24/RD0/LCDD19 (io), B13 PB31/SPI1_MOSI/PCK2 (io), B15 PB26/RF0/LCDD21 (io), B16 PB25/RK0/LCDD20 (io), B17 PB19/LCDD14/LCDD22 (io), C13 PB30/SPI1_MISO/IRQ1 (io), C16 PB21/TF0/LCDD16 (io), D12 PB29/SPI1_SPCK/IRQ2 (io), D13 PB28/SPI1_NPCS0/LCDD23 (io), D14 PB23/TD0/LCDD18 (io), D15 PB20/LCDD15/LCDD23 (io), D16 PB17/LCDD12/LCDD20 (io), E14 PB22/TK0/LCDD17 (io), E15 PB18/LCDD13/LCDD21 (io), E16 PB15/LCDD10/LCDD15 (io), F14 PB16/LCDD11/LCDD19 (io), G14 PB14/LCDD9/LCDD14 (io), G15 PB12/LCDD7/LCDD12 (io), G16 PB11/LCDD6/LCDD11 (io), G17 PB8/LCDD3/LCDD6 (io), H14 PB10/LCDD5/LCDD10 (io), H15 PB13/LCDD8/LCDD13 (io), H16 PB7/LCDD2/LCDD5 (io), H17 PB5/LCDD0/LCDD3 (io), J15 PB9/LCDD4/LCDD7 (io), J16 PB6/LCDD1/LCDD4 (io), J17 PB4/LCDCC/LCDD2 (io), K15 PB3/BMS/LCDDEN (io), K16 PB1/LCDHSYNC (io), K17 PB2/LCDDOTCK/PCK0 (io), L14 PA30/TPK14/A23 (io), L15 PA27/TPK11/SPI0_NPCS1 (io), L16 PA31/TPK15/A24 (io), L17 PB0/LCDVSYNC (io), M3 PC18/D18/TCLK2 (io), M14 PA25/TPK9/SPI1_NPCS2 (io), M15 PA26/TPK10/SPI1_NPCS3 (io), M16 PA28/TPK12/SPI0_NPCS2 (io), M17 PA29/TPK13/SPI0_NPCS3 (io), N2 PC17/D17/TCLK1 (io), N3 PC31/D31/PCK1 (io), N14 PA22/TPK6/RF1 (io), N15 PA21/TPK5/RK1 (io), N16 PA23/TPK7/RTS0 (io), N17 PA24/TPK8/SPI1_NPCS1 (io), P1 PC16/D16/TCLK0 (io), P2 PC30/D30/RF2 (io), P3 PC22/D22/TIOB1 (io), P4 PC24/D24/TIOB2 (io), P5 PC28/D28/RD2 (io), P6 PC1/NANDWE/NCS7 (io), P7 PC7/CFCE2 (io), P8 PC11/CTS0/FIQ (io), P10 PA3/SPI0_NPCS0 (io), P13 PA15/TPS2/RTS2 (io), P14 PA16/TPK0/CTS2 (io), P16 PA19/TPK3/TD1 (io), P17 PA20/TPK4/RD1 (io), R1 PC19/D19/TIOA0 (io), R2 PC21/D21/TIOA1 (io), R4 PC27/D27/TD2 (io), R5 PC29/D29/RK2 (io), R6 PC4/NCS4/CFCS0 (io), R7 PC8/TXD0/PCK2 (io), R8 PC12/TXD1/NCS6 (io), R9 PC14/TXD2/SPI1_NPCS2 (io), R11 PA0/SPI0_MISO/MCDA0 (io), R12 PA7/TWD/PCK0 (io), R13 PA10/DTXD/PCK3 (io), R14 PA13/TPS0/CTS1 (io), R15 PA17/TPK1/TF1 (io), R17 PA18/TPK2/TK1 (io), T1 PC20/D20/TIOB0 (io), T2 PC23/D23/TIOA2 (io), T3 PC26/D26/TK2 (io), T4 PC2/NWAIT/IRQ0 (io), T6 PC5/NCS5/CFCS1 (io), T7 PC9/RXD0/PCK3 (io), T8 PC10/RTS0/SCK0 (io), T9 PC15/RXD2/SPI1_NPCS3 (io), T12 PA1/SPI0_MOSI/MCCDA (io), T13 PA4/SPI0_NPCS1/MCDA1 (io), T14 PA6/SPI0_NPCS3/MCDA3 (io), T15 PA8/TWCK/PCK1 (io), T16 PA11/TSYNC/SCK1 (io), T17 PA14/TPS1/SCK2 (io), U1 PC25/D25/TF2 (io), U2 PC0/NANDOE/NCS6 (io), U3 PC3/A25/CFRNW (io), U5 PC6/CFCE1 (io), U8 PC13/RXD1/NCS7 (io), U13 PA2/SPI0_SPCK/MCCK (io), U14 PA5/SPI0_NPCS2/MCDA2 (io), U15 PA12/TCLK/RTS1 (io), U16 PA9/DRXD/PCK2 (io)
part B pins: A1 A19 (out), A2 A16/BA0 (out), A3 A14 (out), A4 A12 (out), A5 A9 (out), A6 (out), A7 A3 (out), A8 A2 (out), A10 XOUT32 (out), A11 XIN32 (in), A12 DDP (io), A13 HDPB (io), A14 HDMB (io), B1 A20 (out), B2 A18 (out), B3 A15 (out), B4 A13 (out), B5 A11 (out), B6 A7 (out), B7 A4 (out), B8 A1/NBS2/NWR2 (out), B11 WKUP (in), B12 DDM (io), B14 HDMA (io), C1 A22 (out), C2 A21 (out), C4 A17/BA1 (out), C6 A8 (out), C10 TST (in), C12 HDPA (io), D1 NCS2 (out), D2 NCS1/SDCS (out), D6 A10 (out), D7 A5 (out), D8 A0/NBS0 (out), D9 SHDN (out), E1 NWR1/NBS1/CFIOR (out), E2 NWR0/NWE/CFWE (out), E3 NRD/CFOE (out), E4 SDA10 (out), F1 SDCKE (out), F2 RAS (out), F3 NWR3/NBS3/CFIOW (out), F4 NCS0 (out), F15 NRST (io), G1 D0 (io), G2 D1 (io), G3 SDWE (out), G4 NCS3/NANDCS (out), H1 D2 (io), H2 D3 (io), H4 SDCK (out), J1 D4 (io), J2 D5 (io), J4 CAS (out), K1 D6 (io), K2 D8 (io), K3 D10 (io), K4 D7 (io), L1 D9 (io), L2 D11 (io), L3 D12 (io), M1 D13 (io), M2 D15 (io), N1 D14 (io), U9 PLLRCB (in), U10 PLLRCA (in), U11 XIN (in), U12 XOUT (out)
part C pins: B10 JTAGSEL (in), C17 TMS (in), D17 TCK (in), E17 TDI (in), F16 TDO (out), F17 NTRST (io), U17 RTCK (out)
part D pins: A9 NC, A16 GND (power), B9 VDDBU (power), C3 VDDIOM (power), C5 VDDIOM (power), C7 GND (power), C8 VDDIOM (power), C9 GNDBU (power), C11 GND (power), C14 NC, C15 VDDIOP (power), D3 GND (power), D4 VDDIOM (power), D5 VDDCORE (power), D10 NC, D11 VDDIOP (power), H3 VDDIOM (power), H8 GND (power), H9 GND (power), H10 GND (power), J3 GND (power), J8 GND (power), J9 GND (power), J10 GND (power), J14 VDDIOP (power), K8 GND (power), K9 GND (power), K10 GND (power), K14 VDDCORE (power), L4 VDDIOM (power), M4 VDDCORE (power), N4 VDDIOM (power), P9 GNDPLL (power), P11 VDDIOP (power), P12 VDDCORE (power), P15 VDDIOP (power), R3 GND (power), R10 VDDPLL (power), R16 GND (power), T5 VDDIOP (power), T10 VDDOSC (power), T11 GNDOSC (power), U4 GND (power), U6 VDDIOP (power), U7 GND (power)

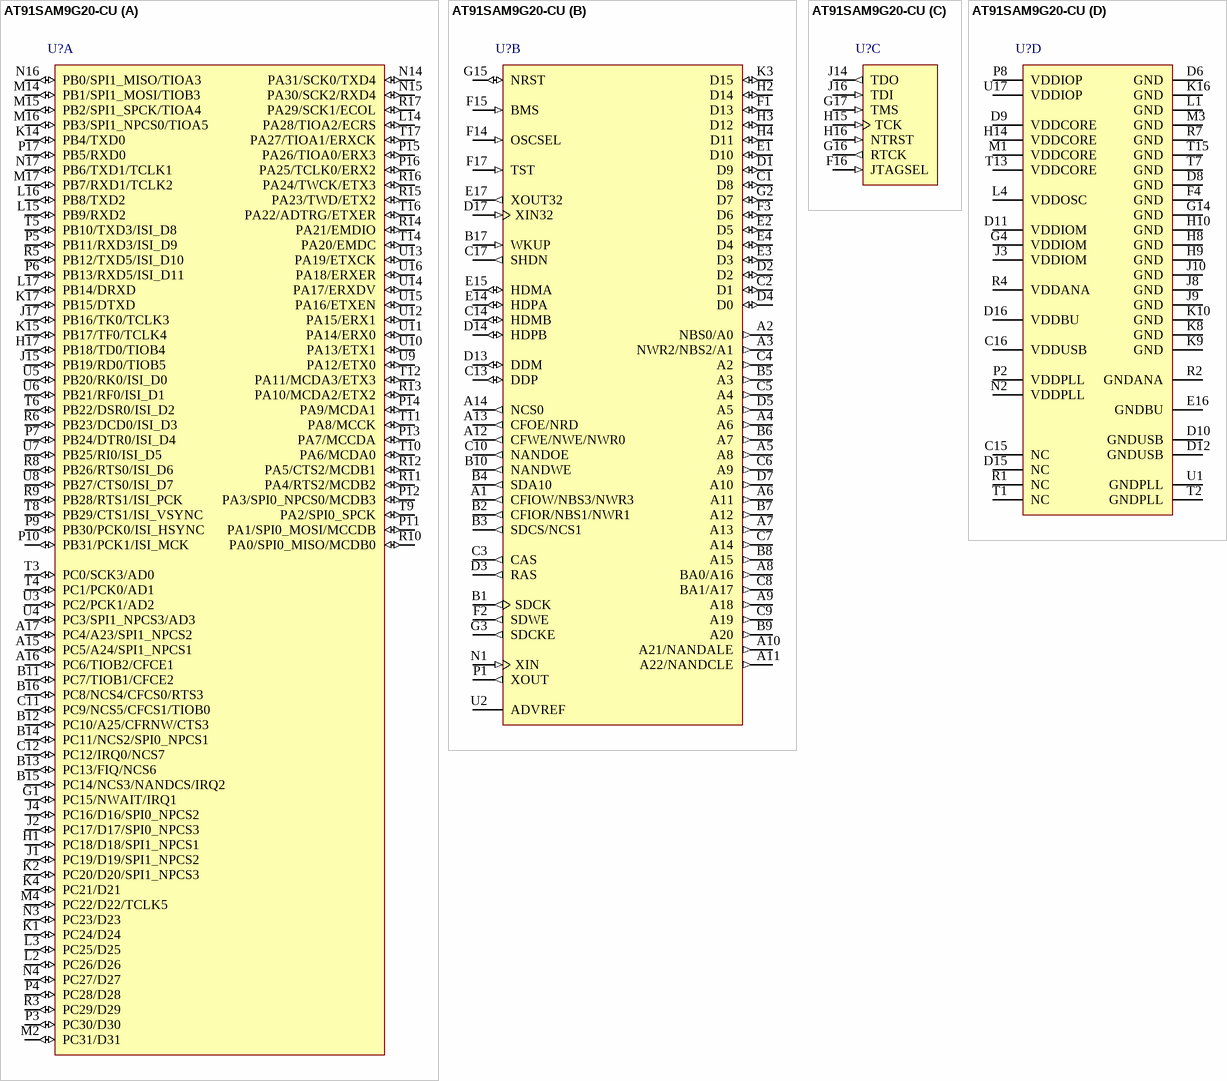
[diagram p29: symbol AT91SAM9G20-CU]

## AT91SAM9G20-CU
designator U?
AT91 ARM Thumb 32-bit Microcontroller, 64KB ROM, 2x16KB SRAM, EBI, E-MAC, FS USB, 24-ch. PDC, 217-Pin LFBGA, Industrial Grade (-40°C to 85°C), Pb-Free; Published: 20-Sep-2010; DatasheetVersion: revE, Feb-2010; PackageVersion: 2009; PackageReference: LFBGA217; Publisher: Altium Limited; PackageDescription: 217-Ball Plastic Low Profile Fine-Pitch BGA, 15 x 15 mm Body, 0.8 mm Pitch; Supplier 1: Mouser; Supplier Part Number 1: 556-AT91SAM9G20-CU; Code_JEDEC: MO-205; ComponentLink1Description: Manufacturer Link; ComponentLink1URL: http://www.atmel.com/products/AT91/default.asp?; ComponentLink2Description: AT91SAM9G20 Datasheet; ComponentLink2URL: http://www.atmel.com/dyn/resources/prod_documents/doc6384.pdf; ComponentLink3Description: AT91SAM9G20 Summary; ComponentLink3URL: http://www.atmel.com/dyn/resources/prod_documents/6384s.pdf; ComponentLink4Description: ARM926EJ-S Reference Manual; ComponentLink4URL: http://www.atmel.com/dyn/resources/prod_documents/ARM_926EJS_TRM.pdf; ComponentLink5Description: Atmel.com Home; ComponentLink5URL: http://www.atmel.com
footprint LFBGA217 (BGA, 208-Leads, Body 15x15mm, Pitch 0.8mm)
part A pins: A15 PC5/A24/SPI1_NPCS1 (io), A16 PC6/TIOB2/CFCE1 (io), A17 PC4/A23/SPI1_NPCS2 (io), B11 PC7/TIOB1/CFCE2 (io), B12 PC10/A25/CFRNW/CTS3 (io), B13 PC13/FIQ/NCS6 (io), B14 PC11/NCS2/SPI0_NPCS1 (io), B15 PC14/NCS3/NANDCS/IRQ2 (io), B16 PC8/NCS4/CFCS0/RTS3 (io), C11 PC9/NCS5/CFCS1/TIOB0 (io), C12 PC12/IRQ0/NCS7 (io), G1 PC15/NWAIT/IRQ1 (io), H1 PC18/D18/SPI1_NPCS1 (io), H17 PB18/TD0/TIOB4 (io), J1 PC19/D19/SPI1_NPCS2 (io), J2 PC17/D17/SPI0_NPCS3 (io), J4 PC16/D16/SPI0_NPCS2 (io), J15 PB19/RD0/TIOB5 (io), J17 PB16/TK0/TCLK3 (io), K1 PC24/D24 (io), K2 PC20/D20/SPI1_NPCS3 (io), K4 PC21/D21 (io), K14 PB4/TXD0 (io), K15 PB17/TF0/TCLK4 (io), K17 PB15/DTXD (io), L2 PC26/D26 (io), L3 PC25/D25 (io), L14 PA28/TIOA2/ECRS (io), L15 PB9/RXD2 (io), L16 PB8/TXD2 (io), L17 PB14/DRXD (io), M2 PC31/D31 (io), M4 PC22/D22/TCLK5 (io), M14 PB1/SPI1_MOSI/TIOB3 (io), M15 PB2/SPI1_SPCK/TIOA4 (io), M16 PB3/SPI1_NPCS0/TIOA5 (io), M17 PB7/RXD1/TCLK2 (io), N3 PC23/D23 (io), N4 PC27/D27 (io), N14 PA31/SCK0/TXD4 (io), N15 PA30/SCK2/RXD4 (io), N16 PB0/SPI1_MISO/TIOA3 (io), N17 PB6/TXD1/TCLK1 (io), P3 PC30/D30 (io), P4 PC28/D28 (io), P5 PB11/RXD3/ISI_D9 (io), P6 PB13/RXD5/ISI_D11 (io), P7 PB24/DTR0/ISI_D4 (io), P9 PB30/PCK0/ISI_HSYNC (io), P10 PB31/PCK1/ISI_MCK (io), P11 PA1/SPI0_MOSI/MCCDB (io), P12 PA3/SPI0_NPCS0/MCDB3 (io), P13 PA7/MCCDA (io), P14 PA9/MCDA1 (io), P15 PA26/TIOA0/ERX3 (io), P16 PA25/TCLK0/ERX2 (io), P17 PB5/RXD0 (io), R3 PC29/D29 (io), R5 PB12/TXD5/ISI_D10 (io), R6 PB23/DCD0/ISI_D3 (io), R8 PB26/RTS0/ISI_D6 (io), R9 PB28/RTS1/ISI_PCK (io), R10 PA0/SPI0_MISO/MCDB0 (io), R11 PA4/RTS2/MCDB2 (io), R12 PA5/CTS2/MCDB1 (io), R13 PA10/MCDA2/ETX2 (io), R14 PA21/EMDIO (io), R15 PA23/TWD/ETX2 (io), R16 PA24/TWCK/ETX3 (io), R17 PA29/SCK1/ECOL (io), T3 PC0/SCK3/AD0 (io), T4 PC1/PCK0/AD1 (io), T5 PB10/TXD3/ISI_D8 (io), T6 PB22/DSR0/ISI_D2 (io), T8 PB29/CTS1/ISI_VSYNC (io), T9 PA2/SPI0_SPCK (io), T10 PA6/MCDA0 (io), T11 PA8/MCCK (io), T12 PA11/MCDA3/ETX3 (io), T14 PA20/EMDC (io), T16 PA22/ADTRG/ETXER (io), T17 PA27/TIOA1/ERXCK (io), U3 PC2/PCK1/AD2 (io), U4 PC3/SPI1_NPCS3/AD3 (io), U5 PB20/RK0/ISI_D0 (io), U6 PB21/RF0/ISI_D1 (io), U7 PB25/RI0/ISI_D5 (io), U8 PB27/CTS0/ISI_D7 (io), U9 PA12/ETX0 (io), U10 PA13/ETX1 (io), U11 PA14/ERX0 (io), U12 PA15/ERX1 (io), U13 PA19/ETXCK (io), U14 PA17/ERXDV (io), U15 PA16/ETXEN (io), U16 PA18/ERXER (io)
part B pins: A1 CFIOW/NBS3/NWR3 (out), A2 NBS0/A0 (out), A3 NWR2/NBS2/A1 (out), A4 A6 (out), A5 A8 (out), A6 A11 (out), A7 A13 (out), A8 BA0/A16 (out), A9 A18 (out), A10 A21/NANDALE (out), A11 A22/NANDCLE (out), A12 CFWE/NWE/NWR0 (out), A13 CFOE/NRD (out), A14 NCS0 (out), B1 SDCK (out), B2 CFIOR/NBS1/NWR1 (out), B3 SDCS/NCS1 (out), B4 SDA10 (out), B5 A3 (out), B6 A7 (out), B7 A12 (out), B8 A15 (out), B9 A20 (out), B10 NANDWE (out), B17 WKUP (in), C1 D8 (io), C2 D1 (io), C3 CAS (out), C4 A2 (out), C5 A4 (out), C6 A9 (out), C7 A14 (out), C8 BA1/A17 (out), C9 A19 (out), C10 NANDOE (out), C13 DDP (io), C14 HDMB (io), C17 SHDN (out), D1 D9 (io), D2 (io), D3 RAS (out), D4 D0 (io), D5 A5 (out), D7 A10 (out), D13 DDM (io), D14 HDPB (io), D17 XIN32 (in), E1 D10 (io), E2 D5 (io), E3 D3 (io), E4 D4 (io), E14 HDPA (io), E15 HDMA (io), E17 XOUT32 (out), F1 D13 (io), F2 SDWE (out), F3 D6 (io), F14 OSCSEL (in), F15 BMS (in), F17 TST (in), G2 D7 (io), G3 SDCKE (out), G15 NRST (io), H2 D14 (io), H3 D12 (io), H4 D11 (io), K3 D15 (io), N1 XIN (in), P1 XOUT (out), U2 ADVREF (power)
part C pins: F16 JTAGSEL (in), G16 RTCK (out), G17 TMS (in), H15 TCK (in), H16 NTRST (in), J14 TDO (out), J16 TDI (in)
part D pins: C15 NC, C16 VDDUSB (power), D6 GND (power), D8 GND (power), D9 VDDCORE (power), D10 GNDUSB (power), D11 VDDIOM (power), D12 GNDUSB (power), D15 NC, D16 VDDBU (power), E16 GNDBU (power), F4 GND (power), G4 VDDIOM (power), G14 GND (power), H8 GND (power), H9 GND (power), H10 GND (power), H14 VDDCORE (power), J3 VDDIOM (power), J8 GND (power), J9 GND (power), J10 GND (power), K8 GND (power), K9 GND (power), K10 GND (power), K16 GND (power), L1 GND (power), L4 VDDOSC (power), M1 VDDCORE (power), M3 GND (power), N2 VDDPLL (power), P2 VDDPLL (power), P8 VDDIOP (power), R1 NC, R2 GNDANA (power), R4 VDDANA (power), R7 GND (power), T1 NC, T2 GNDPLL (power), T7 GND (power), T13 VDDCORE (power), T15 GND (power), U1 GNDPLL (power), U17 VDDIOP (power)

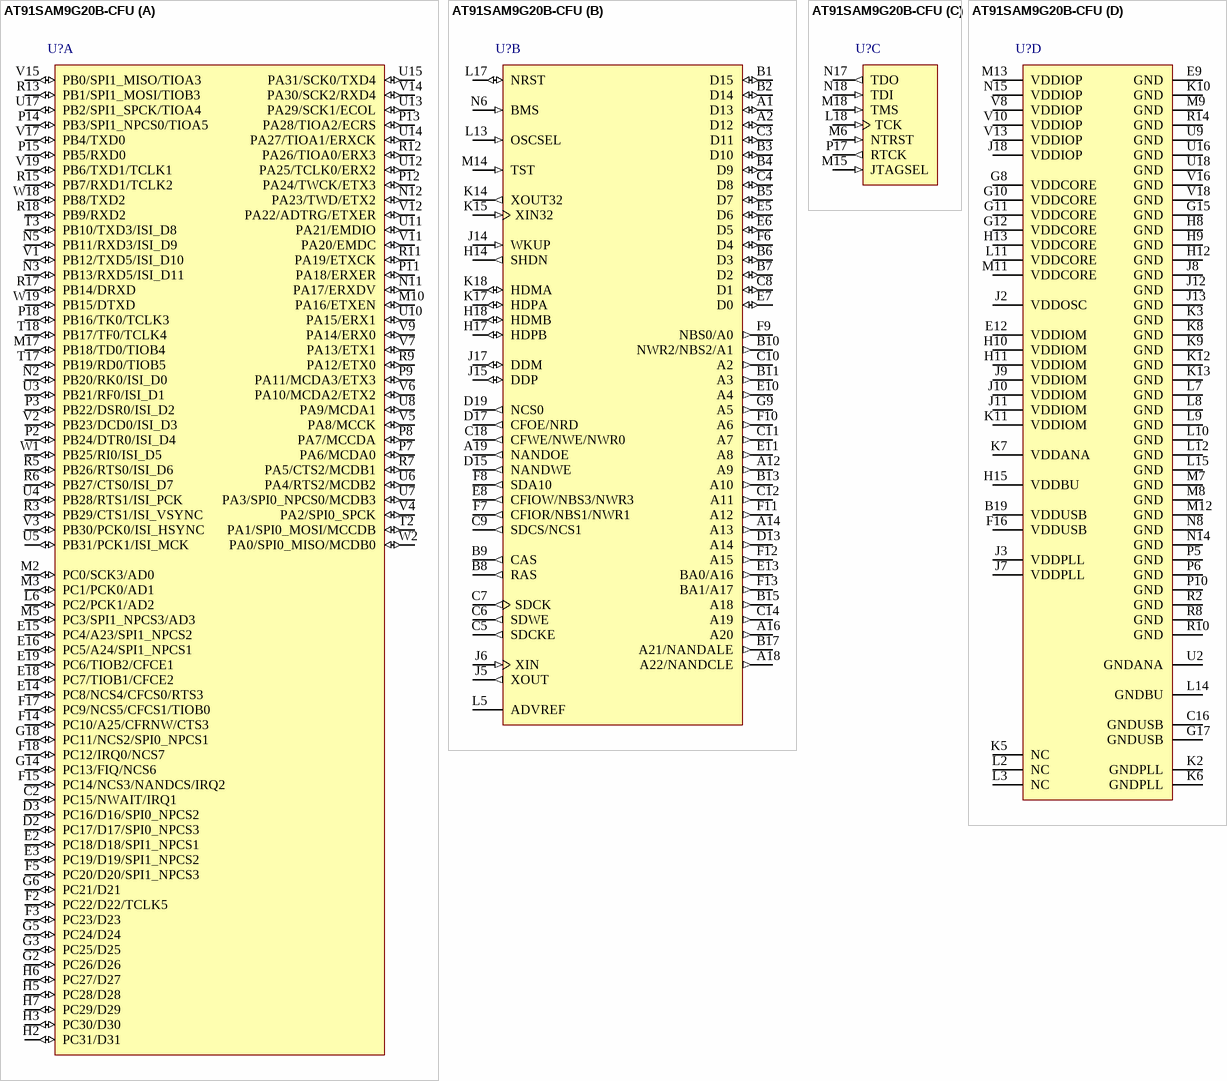
[diagram p30: symbol AT91SAM9G20B-CFU]

## AT91SAM9G20B-CFU
designator U?
AT91 ARM Thumb 32-bit Microcontroller, 64KB ROM, 2x16KB SRAM, EBI, E-MAC, FS USB, 24-ch. PDC, 247-Pin TFBGA, Industrial Grade (-40°C to 85°C), Pb-Free; Published: 20-Sep-2010; DatasheetVersion: revE, Feb-2010; PackageVersion: 2010; PackageReference: TFBGA247; Publisher: Altium Limited; PackageDescription: 247-Ball Thin Fine-Pitch BGA, 10 x 10 x 1.1 mm Body 0.5 mm Pitch; Supplier 1: Digi-Key; Supplier Part Number 1: AT91SAM9G20B-CFU-ND; Supplier 2: Mouser; Supplier Part Number 2: 556-AT91SAM9G20B-CFU; ComponentLink1Description: Manufacturer Link; ComponentLink1URL: http://www.atmel.com/products/AT91/default.asp?; ComponentLink2Description: AT91SAM9G20 Datasheet; ComponentLink2URL: http://www.atmel.com/dyn/resources/prod_documents/doc6384.pdf; ComponentLink3Description: AT91SAM9G20 Summary; ComponentLink3URL: http://www.atmel.com/dyn/resources/prod_documents/6384s.pdf; ComponentLink4Description: ARM926EJ-S Reference Manual; ComponentLink4URL: http://www.atmel.com/dyn/resources/prod_documents/ARM_926EJS_TRM.pdf; ComponentLink5Description: Atmel.com Home; ComponentLink5URL: http://www.atmel.com
footprint TFBGA247 (BGA, 247-Leads, Body 10x10mm, Pitch 0.5mm)
part A pins: C2 PC15/NWAIT/IRQ1 (io), D2 PC17/D17/SPI0_NPCS3 (io), D3 PC16/D16/SPI0_NPCS2 (io), E2 PC18/D18/SPI1_NPCS1 (io), E3 PC19/D19/SPI1_NPCS2 (io), E14 PC8/NCS4/CFCS0/RTS3 (io), E15 PC4/A23/SPI1_NPCS2 (io), E16 PC5/A24/SPI1_NPCS1 (io), E18 PC7/TIOB1/CFCE2 (io), E19 PC6/TIOB2/CFCE1 (io), F2 PC22/D22/TCLK5 (io), F3 PC23/D23 (io), F5 PC20/D20/SPI1_NPCS3 (io), F14 PC10/A25/CFRNW/CTS3 (io), F15 PC14/NCS3/NANDCS/IRQ2 (io), F17 PC9/NCS5/CFCS1/TIOB0 (io), F18 PC12/IRQ0/NCS7 (io), G2 PC26/D26 (io), G3 PC25/D25 (io), G5 PC24/D24 (io), G6 PC21/D21 (io), G14 PC13/FIQ/NCS6 (io), G18 PC11/NCS2/SPI0_NPCS1 (io), H2 PC31/D31 (io), H3 PC30/D30 (io), H5 PC28/D28 (io), H6 PC27/D27 (io), H7 PC29/D29 (io), L6 PC2/PCK1/AD2 (io), M2 PC0/SCK3/AD0 (io), M3 PC1/PCK0/AD1 (io), M5 PC3/SPI1_NPCS3/AD3 (io), M10 PA16/ETXEN (io), M17 PB18/TD0/TIOB4 (io), N2 PB20/RK0/ISI_D0 (io), N3 PB13/RXD5/ISI_D11 (io), N5 PB11/RXD3/ISI_D9 (io), N11 PA17/ERXDV (io), N12 PA23/TWD/ETX2 (io), P2 PB24/DTR0/ISI_D4 (io), P3 PB22/DSR0/ISI_D2 (io), P7 PA6/MCDA0 (io), P8 PA7/MCCDA (io), P9 PA11/MCDA3/ETX3 (io), P11 PA18/ERXER (io), P12 PA24/TWCK/ETX3 (io), P13 PA28/TIOA2/ECRS (io), P14 PB3/SPI1_NPCS0/TIOA5 (io), P15 PB5/RXD0 (io), P18 PB16/TK0/TCLK3 (io), R3 PB29/CTS1/ISI_VSYNC (io), R5 PB26/RTS0/ISI_D6 (io), R6 PB27/CTS0/ISI_D7 (io), R7 PA5/CTS2/MCDB1 (io), R9 PA12/ETX0 (io), R11 PA19/ETXCK (io), R12 PA26/TIOA0/ERX3 (io), R13 PB1/SPI1_MOSI/TIOB3 (io), R15 PB7/RXD1/TCLK2 (io), R17 PB14/DRXD (io), R18 PB9/RXD2 (io), T2 PA1/SPI0_MOSI/MCCDB (io), T3 PB10/TXD3/ISI_D8 (io), T17 PB19/RD0/TIOB5 (io), T18 PB17/TF0/TCLK4 (io), U3 PB21/RF0/ISI_D1 (io), U4 PB28/RTS1/ISI_PCK (io), U5 PB31/PCK1/ISI_MCK (io), U6 PA4/RTS2/MCDB2 (io), U7 PA3/SPI0_NPCS0/MCDB3 (io), U8 PA9/MCDA1 (io), U10 PA15/ERX1 (io), U11 PA21/EMDIO (io), U12 PA25/TCLK0/ERX2 (io), U13 PA29/SCK1/ECOL (io), U14 PA27/TIOA1/ERXCK (io), U15 PA31/SCK0/TXD4 (io), U17 PB2/SPI1_SPCK/TIOA4 (io), V1 PB12/TXD5/ISI_D10 (io), V2 PB23/DCD0/ISI_D3 (io), V3 PB30/PCK0/ISI_HSYNC (io), V4 PA2/SPI0_SPCK (io), V5 PA8/MCCK (io), V6 PA10/MCDA2/ETX2 (io), V7 PA13/ETX1 (io), V9 PA14/ERX0 (io), V11 PA20/EMDC (io), V12 PA22/ADTRG/ETXER (io), V14 PA30/SCK2/RXD4 (io), V15 PB0/SPI1_MISO/TIOA3 (io), V17 PB4/TXD0 (io), V19 PB6/TXD1/TCLK1 (io), W1 PB25/RI0/ISI_D5 (io), W2 PA0/SPI0_MISO/MCDB0 (io), W18 PB8/TXD2 (io), W19 PB15/DTXD (io)
part B pins: A1 D13 (io), A2 D12 (io), A12 A9 (out), A14 A13 (out), A16 A20 (out), A18 A22/NANDCLE (out), A19 NANDOE (out), B1 D15 (io), B2 D14 (io), B3 D10 (io), B4 D9 (io), B5 D7 (io), B6 D3 (io), B7 D2 (io), B8 RAS (out), B9 CAS (out), B10 NWR2/NBS2/A1 (out), B11 A3 (out), B13 A10 (out), B15 A18 (out), B17 A21/NANDALE (out), C3 D11 (io), C4 D8 (io), C5 SDCKE (out), C6 SDWE (out), C7 SDCK (out), C8 D1 (io), C9 SDCS/NCS1 (out), C10 A2 (out), C11 A7 (out), C12 A11 (out), C14 A19 (out), C18 CFWE/NWE/NWR0 (out), D13 A14 (out), D15 NANDWE (out), D17 CFOE/NRD (out), D19 NCS0 (out), E5 D6 (io), E6 D5 (io), E7 D0 (io), E8 CFIOW/NBS3/NWR3 (out), E10 A4 (out), E11 A8 (out), E13 BA0/A16 (out), F6 D4 (io), F7 CFIOR/NBS1/NWR1 (out), F8 SDA10 (out), F9 NBS0/A0 (out), F10 A6 (out), F11 A12 (out), F12 A15 (out), F13 BA1/A17 (out), G9 A5 (out), H14 SHDN (out), H17 HDPB (io), H18 HDMB (io), J5 XOUT (out), J6 XIN (in), J14 WKUP (in), J15 DDP (io), J17 DDM (io), K14 XOUT32 (out), K15 XIN32 (in), K17 HDPA (io), K18 HDMA (io), L5 ADVREF (power), L13 OSCSEL (in), L17 NRST (io), M14 TST (in), N6 BMS (in)
part C pins: L18 TCK (in), M6 NTRST (in), M15 JTAGSEL (in), M18 TMS (in), N17 TDO (out), N18 TDI (in), P17 RTCK (out)
part D pins: B19 VDDUSB (power), C16 GNDUSB (power), E9 GND (power), E12 VDDIOM (power), F16 VDDUSB (power), G8 VDDCORE (power), G10 VDDCORE (power), G11 VDDCORE (power), G12 VDDCORE (power), G15 GND (power), G17 GNDUSB (power), H8 GND (power), H9 GND (power), H10 VDDIOM (power), H11 VDDIOM (power), H12 GND (power), H13 VDDCORE (power), H15 VDDBU (power), J2 VDDOSC (power), J3 VDDPLL (power), J7 VDDPLL (power), J8 GND (power), J9 VDDIOM (power), J10 VDDIOM (power), J11 VDDIOM (power), J12 GND (power), J13 GND (power), J18 VDDIOP (power), K2 GNDPLL (power), K3 GND (power), K5 NC, K6 GNDPLL (power), K7 VDDANA (power), K8 GND (power), K9 GND (power), K10 GND (power), K11 VDDIOM (power), K12 GND (power), K13 GND (power), L2 NC, L3 NC, L7 GND (power), L8 GND (power), L9 GND (power), L10 GND (power), L11 VDDCORE (power), L12 GND (power), L14 GNDBU (power), L15 GND (power), M7 GND (power), M8 GND (power), M9 GND (power), M11 VDDCORE (power), M12 GND (power), M13 VDDIOP (power), N8 GND (power), N14 GND (power), N15 VDDIOP (power), P5 GND (power), P6 GND (power), P10 GND (power), R2 GND (power), R8 GND (power), R10 GND (power), R14 GND (power), U2 GNDANA (power), U9 GND (power), U16 GND (power), U18 GND (power), V8 VDDIOP (power), V10 VDDIOP (power), V13 VDDIOP (power), V16 GND (power), V18 GND (power)

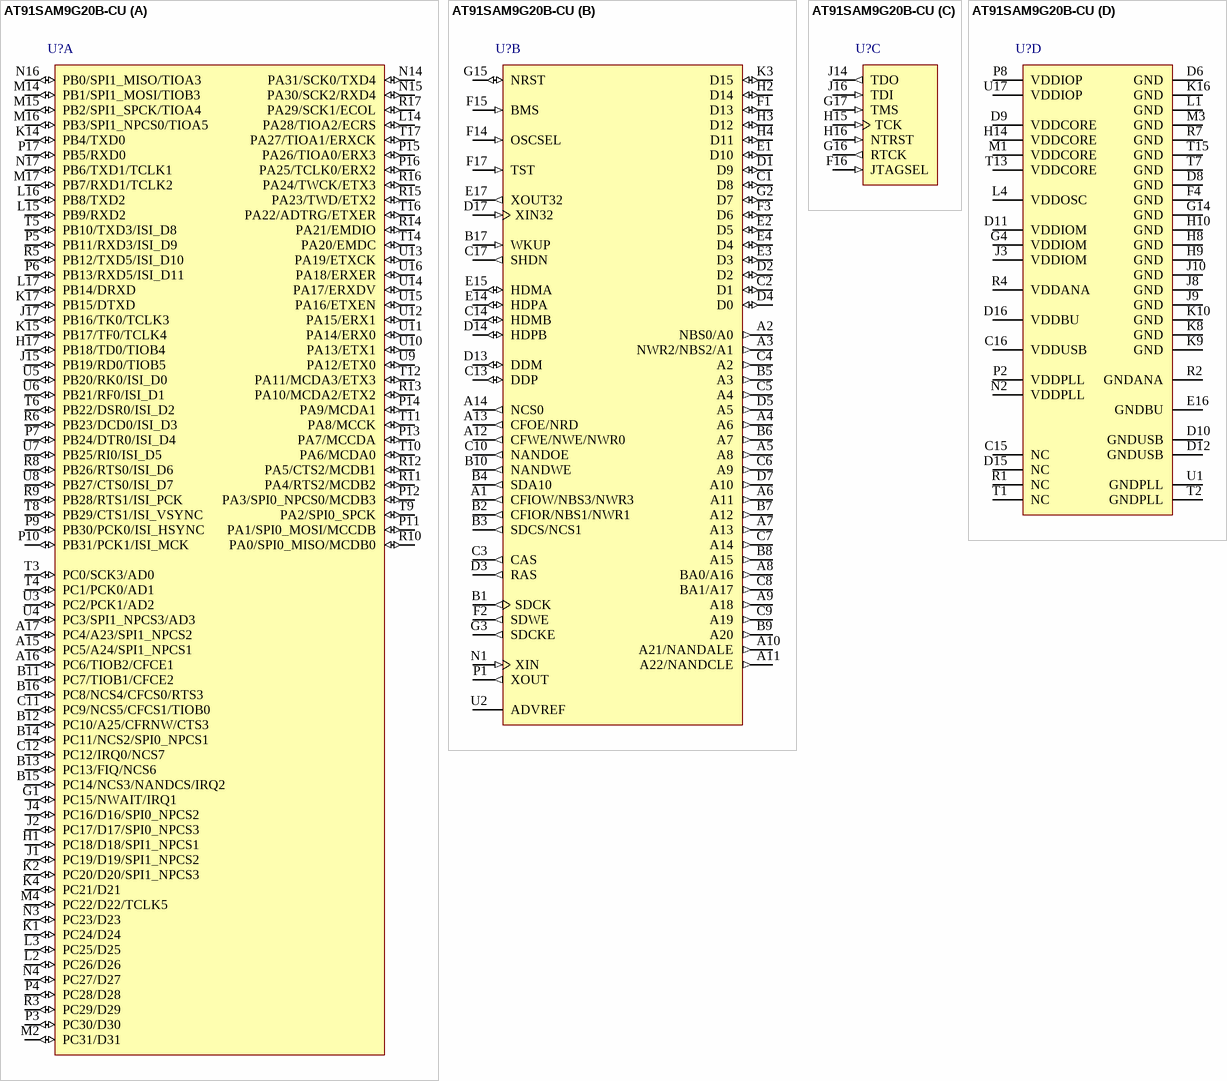
[diagram p31: symbol AT91SAM9G20B-CU]